# Altium schematic symbol library B-NT_CHIPS.SchLib: 157 symbols (part 3 of 4)
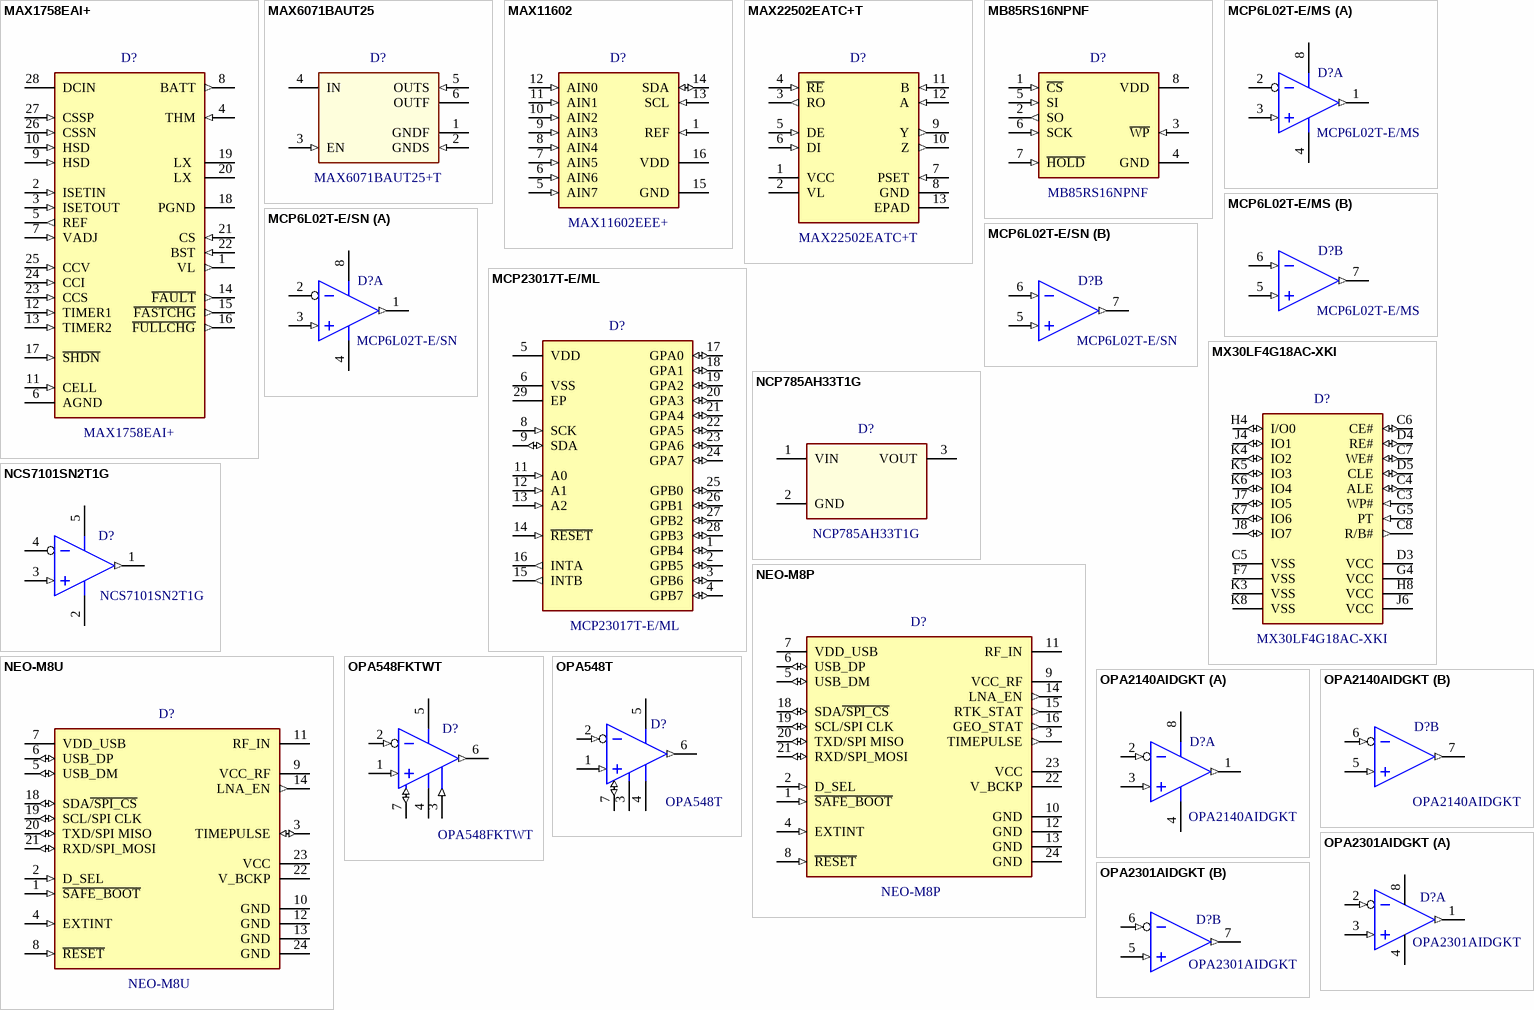
[diagram p11: symbols MAX1758EAI+ to OPA2301AIDGKT]

## NEO-M8U
designator D?  value NEO-M8U
RF Receiver BeiDou, Galileo, GLONASS, GNSS, GPS 1.575GHz -160dBm; ValueManufacturer: U-Blox America Inc.; PowerVoltage: 2.7V~3.6V; ValueDescription: NEO-M8U Приемник BeiDou, Galileo, GLONASS, GPS 2.7V~3.6V  24-SMD Module; Price: 43.0; ComponentLink1Description: U-Blox America Datasheet; ComponentLink1URL: https://www.u-blox.com/sites/default/files/NEO-M8U_DataSheet_%28UBX-15015679%29.pdf; Package: 24-SMD Module; ValueManufacturerPartNumber: NEO-M8U; ValueType: RF Receiver; Operating Temperature: -40°C~85°C; CheckDate: SC 21.10.17
footprint U-BLOX_NEO
pins: 1 ~{SAFE_BOOT} (in), 2 D_SEL (in), 3 TIMEPULSE (io), 4 EXTINT (in), 5 USB_DM (io), 6 USB_DP (io), 7 VDD_USB, 8 ~{RESET} (in), 9 VCC_RF, 10 GND, 11 RF_IN, 12 GND, 13 GND, 14 LNA_EN (out), 18 SDA~{/SPI_CS} (io), 19 SCL/SPI CLK (io), 20 TXD/SPI MISO (io), 21 RXD/SPI_MOSI (io), 22 V_BCKP, 23 VCC, 24 GND

## OPA548FKTWT
designator D?  value OPA548FKTWT
IC OPAMP POWER 1MHZ DDPAK; ValueManufacturer: Texas Instruments; PowerVoltage: 8 V ~ 60 V; ValueDescription: OPA548FKTWT Операционный усилитель 8 V ~ 60 V  TO-263-8, D²Pak (7 Leads + Tab), TO-263CA; ValueType: Operational amplifiers; Price: 17.09; ComponentLink1Description: Texas Instruments Datasheet; ComponentLink1URL: http://www.ti.com/lit/ds/symlink/opa548.pdf; Package: TO-263-8, D²Pak (7 Leads + Tab), TO-263CA; ValueManufacturerPartNumber: OPA548FKTWT; Operating Temperature: -40°C ~ 85°C; CheckDate: SC *
footprint TO-263-7 (DDPAK/TO-263-7)
pins: 1 VIN+ (in) "Noninverting input", 2 VIN- (in) "Inverting input", 3 ILIM (in) "Current limit set", 4 V- (power) "Negative power supply", 5 V+ (power) "Positive power supply", 6 VOUT (out) "Output", 7 E/S (io) "Enable/disable control input, thermal shutdown status output"

## OPA548T
designator D?  value OPA548T
IC OPAMP POWER 1MHZ TO220-7; ValueManufacturer: Texas Instruments; PowerVoltage: 8 V ~ 60 V; ValueDescription: OPA548T Операционный усилитель 8 V ~ 60 V  TO220-7; ValueType: Operational amplifiers; Price: 14.67; ComponentLink1Description: Texas Instruments Datasheet; ComponentLink1URL: http://www.ti.com/lit/ds/symlink/opa548.pdf; Package: TO220-7; ValueManufacturerPartNumber: OPA548T; Operating Temperature: -40°C ~ 85°C; CheckDate: SC *
footprint TO-220-7 (Formed Leads) (TO-220-7)
footprint TO-220-7 (Formed Leads) +радиатор (TO-220-7+ радиатор)
pins: 1 VIN+ (in) "Noninverting input", 2 VIN- (in) "Inverting input", 3 ILIM "Current limit set", 4 V- (power) "Negative power supply", 5 V+ (power) "Positive power supply", 6 VOUT (out) "Output", 7 E/S (io) "Enable/disable control input, thermal shutdown status output"

## OPA2140AIDGKT
designator D?  value OPA2140AIDGKT
J-FET Amplifier 2 Circuit Rail-to-Rail 11MHZ 8-VSSOP; ValueManufacturer: Texas Instruments; PowerVoltage: ±2.25 V ~ 18 V; ValueDescription: OPA2140AIDGKT Операционный усилитель ±2.25 V ~ 18 V  8-TSSOP, 8-MSOP; ValueType: Operational amplifiers; Price: 6.49; ComponentLink1Description: Texas Instruments Datasheet; ComponentLink1URL: http://www.ti.com/lit/ds/symlink/opa2140.pdf; Package: 8-TSSOP, 8-MSOP; ValueManufacturerPartNumber: OPA2140AIDGKT; Operating Temperature: -40°C ~ 125°C; CheckDate: SC *
footprint SSOP-8-3X3-0.65 (MSOP, 8-Leads, Body 3,00x3,00mm, Pitch 0,65mm, IPC Medium Density)
part A pins: 1 OUTA (out) "Output", 2 INA- (in) "Inverting input", 3 INA+ (in) "Noninverting input", 4 V- (power) "Negative power supply", 8 V+ (power) "Positive power supply"
part B pins: 5 INB+ (in) "Noninverting input", 6 INB- (in) "Inverting input", 7 OUTB (out) "Output"

## OPA2301AIDGKT
designator D?  value OPA2301AIDGKT
OP 2 Circuit 150MHZ Rail-to-Rail 8-VSSOP; ValueManufacturer: Texas Instruments; PowerVoltage: 5.5V; ValueDescription: OPA2301AIDGKT Операционный усилитель 5.5V  8-TSSOP, 8-MSOP  150MHz; ValueType: Operational amplifiers; Price: 2.73; ComponentLink1Description: Texas Instruments Datasheet; ComponentLink1URL: http://www.ti.com/lit/ds/symlink/opa300.pdf; Package: 8-TSSOP, 8-MSOP; TechSpec: 150MHz; ValueManufacturerPartNumber: OPA2301AIDGKT; Operating Temperature: -40°C~125°C; CheckDate: *
footprint SSOP-8-3X3-0.65 (MSOP, 8-Leads, Body 3,00x3,00mm, Pitch 0,65mm, IPC Medium Density)
part A pins: 1 OUTA (out) "Output", 2 INA- (in) "Inverting input", 3 INA+ (in) "Noninverting input", 4 V- (power) "Negative power supply", 8 V+ (power) "Positive power supply"
part B pins: 5 INB+ (in) "Noninverting input", 6 INB- (in) "Inverting input", 7 OUTB (out) "Output"

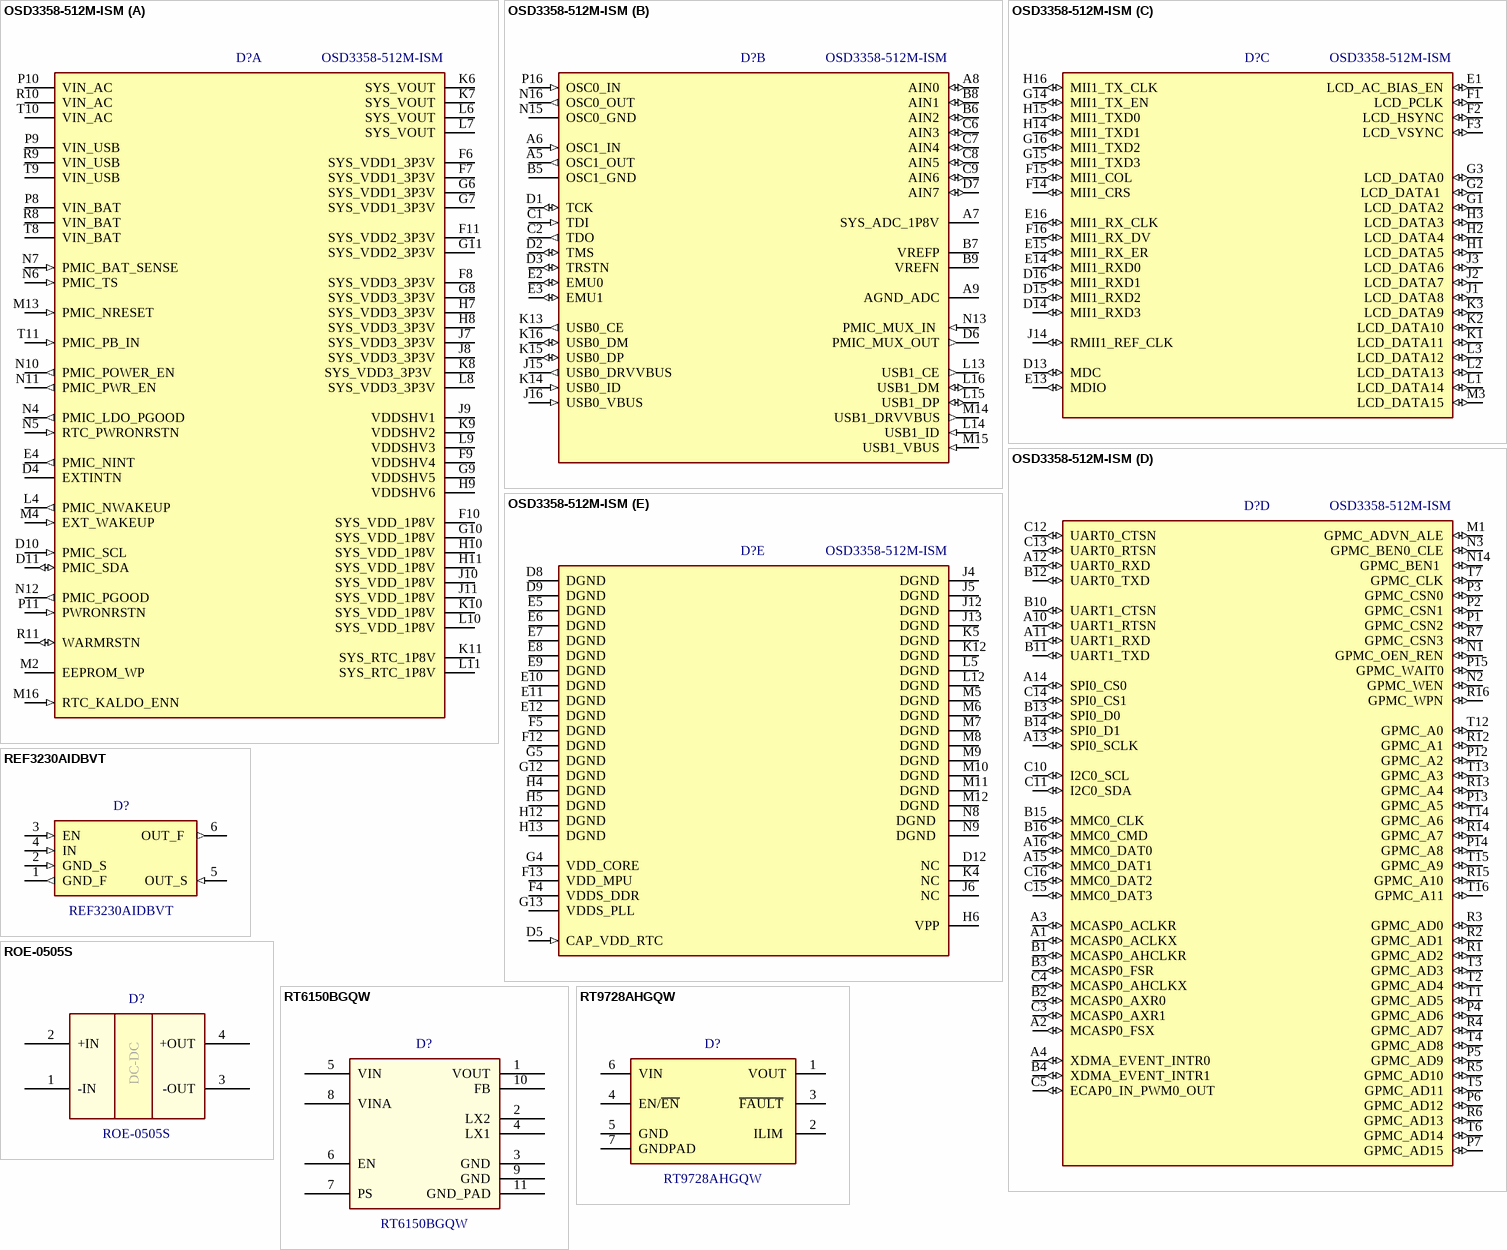
[diagram p5: symbols OSD3358-512M-ISM to RT9728AHGQW]

## OSD3358-512M-ISM
designator D?  value OSD3358-512M-ISM
SIP BUILDING BLOCKS EMBEDDED MODULE; ValueManufacturer: Octavo Systems LLC; PowerVoltage: 5V; ValueDescription: OSD3358-512M-ISM Микросборка 5V  256-BGA (16x16); ValueType: Microcontroller; Price: 52.8; ComponentLink1Description: Octavo Systems Datasheet; ComponentLink1URL: https://octavosystems.com/docs/osd335x-sm-datasheet/; Package: 256-BGA (16x16); ValueManufacturerPartNumber: OSD3358-512M-ISM; Operating Temperature: -40°C ~ 85°C (TA); CheckDate: SC *
footprint BGA256_16X16 (BGA, 256-Leads, Body 21,00x21,00mmx3,08mm, Pitch 1,27mm)
part A pins: D4 EXTINTN, D10 PMIC_SCL (in), D11 PMIC_SDA (io), E4 PMIC_NINT (out), F6 SYS_VDD1_3P3V, F7 SYS_VDD1_3P3V, F8 SYS_VDD3_3P3V, F9 VDDSHV4, F10 SYS_VDD_1P8V, F11 SYS_VDD2_3P3V, G6 SYS_VDD1_3P3V, G7 SYS_VDD1_3P3V, G8 SYS_VDD3_3P3V, G9 VDDSHV5, G10 SYS_VDD_1P8V, G11 SYS_VDD2_3P3V, H7 SYS_VDD3_3P3V, H8 SYS_VDD3_3P3V, H9 VDDSHV6, H10 SYS_VDD_1P8V, H11 SYS_VDD_1P8V, J7 SYS_VDD3_3P3V, J8 SYS_VDD3_3P3V, J9 VDDSHV1, J10 SYS_VDD_1P8V, J11 SYS_VDD_1P8V, K6 SYS_VOUT, K7 SYS_VOUT, K8 SYS_VDD3_3P3V , K9 VDDSHV2, K10 SYS_VDD_1P8V, K11 SYS_RTC_1P8V, L4 PMIC_NWAKEUP (out), L6 SYS_VOUT, L7 SYS_VOUT, L8 SYS_VDD3_3P3V, L9 VDDSHV3, L10 SYS_VDD_1P8V, L11 SYS_RTC_1P8V, M2 EEPROM_WP, M4 EXT_WAKEUP (in), M13 PMIC_NRESET (in), M16 RTC_KALDO_ENN (in), N4 PMIC_LDO_PGOOD (out), N5 RTC_PWRONRSTN  (in), N6 PMIC_TS  (in), N7 PMIC_BAT_SENSE  (in), N10 PMIC_POWER_EN  (out), N11 PMIC_PWR_EN  (out), N12 PMIC_PGOOD  (out), P8 VIN_BAT, P9 VIN_USB, P10 VIN_AC , P11 PWRONRSTN (in), R8 VIN_BAT, R9 VIN_USB, R10 VIN_AC, R11 WARMRSTN (io), T8 VIN_BAT, T9 VIN_USB, T10 VIN_AC, T11 PMIC_PB_IN (in)
part B pins: A5 OSC1_OUT (out), A6 OSC1_IN (in), A7 SYS_ADC_1P8V, A8 AIN0 (io), A9 AGND_ADC, B5 OSC1_GND, B6 AIN2 (io), B7 VREFP, B8 AIN1 (io), B9 VREFN, C1 TDI (in), C2 TDO  (out), C6 AIN3 (io), C7 AIN4 (io), C8 AIN5 (io), C9 AIN6 (io), D1 TCK (io), D2 TMS (io), D3 TRSTN (io), D6 PMIC_MUX_OUT (out), D7 AIN7 (io), E2 EMU0 (io), E3 EMU1 (io), J15 USB0_DRVVBUS (out), J16 USB0_VBUS (in), K13 USB0_CE (out), K14 USB0_ID (in), K15 USB0_DP (io), K16 USB0_DM (io), L13 USB1_CE (out), L14 USB1_ID (in), L15 USB1_DP (io), L16 USB1_DM (io), M14 USB1_DRVVBUS (out), M15 USB1_VBUS (in), N13 PMIC_MUX_IN  (in), N15 OSC0_GND , N16 OSC0_OUT  (out), P16 OSC0_IN (in)
part C pins: D13 MDC (io), D14 MII1_RXD3 (io), D15 MII1_RXD2 (io), D16 MII1_RXD1 (io), E1 LCD_AC_BIAS_EN (io), E13 MDIO (io), E14 MII1_RXD0 (io), E15 MII1_RX_ER (io), E16 MII1_RX_CLK (io), F1 LCD_PCLK (io), F2 LCD_HSYNC (io), F3 LCD_VSYNC (io), F14 MII1_CRS (io), F15 MII1_COL   (io), F16 MII1_RX_DV (io), G1 LCD_DATA2 (io), G2 LCD_DATA1  (io), G3 LCD_DATA0 (io), G14 MII1_TX_EN (io), G15 MII1_TXD3 (io), G16 MII1_TXD2 (io), H1 LCD_DATA5 (io), H2 LCD_DATA4 (io), H3 LCD_DATA3 (io), H14 MII1_TXD1 (io), H15 MII1_TXD0 (io), H16 MII1_TX_CLK (io), J1 LCD_DATA8 (io), J2 LCD_DATA7 (io), J3 LCD_DATA6 (io), J14 RMII1_REF_CLK (io), K1 LCD_DATA11 (io), K2 LCD_DATA10 (io), K3 LCD_DATA9 (io), L1 LCD_DATA14 (io), L2 LCD_DATA13 (io), L3 LCD_DATA12 (io), M3 LCD_DATA15 (io)
part D pins: A1 MCASP0_ACLKX (io), A2 MCASP0_FSX (io), A3 MCASP0_ACLKR (io), A4 XDMA_EVENT_INTR0 (io), A10 UART1_RTSN (io), A11 UART1_RXD (io), A12 UART0_RXD (io), A13 SPI0_SCLK (io), A14 SPI0_CS0 (io), A15 MMC0_DAT1 (io), A16 MMC0_DAT0 (io), B1 MCASP0_AHCLKR (io), B2 MCASP0_AXR0 (io), B3 MCASP0_FSR (io), B4 XDMA_EVENT_INTR1 (io), B10 UART1_CTSN (io), B11 UART1_TXD (io), B12 UART0_TXD (io), B13 SPI0_D0 (io), B14 SPI0_D1 (io), B15 MMC0_CLK (io), B16 MMC0_CMD (io), C3 MCASP0_AXR1 (io), C4 MCASP0_AHCLKX (io), C5 ECAP0_IN_PWM0_OUT (io), C10 I2C0_SCL (io), C11 I2C0_SDA (io), C12 UART0_CTSN (io), C13 UART0_RTSN (io), C14 SPI0_CS1 (io), C15 MMC0_DAT3 (io), C16 MMC0_DAT2 (io), M1 GPMC_ADVN_ALE (io), N1 GPMC_OEN_REN (io), N2 GPMC_WEN (io), N3 GPMC_BEN0_CLE (io), N14 GPMC_BEN1  (io), P1 GPMC_CSN2 (io), P2 GPMC_CSN1 (io), P3 GPMC_CSN0 (io), P4 GPMC_AD6 (io), P5 GPMC_AD9 (io), P6 GPMC_AD12 (io), P7 GPMC_AD15 (io), P12 GPMC_A2 (io), P13 GPMC_A5 (io), P14 GPMC_A8 (io), P15 GPMC_WAIT0 (io), R1 GPMC_AD2 (io), R2 GPMC_AD1 (io), R3 GPMC_AD0 (io), R4 GPMC_AD7 (io), R5 GPMC_AD10 (io), R6 GPMC_AD13 (io), R7 GPMC_CSN3 (io), R12 GPMC_A1 (io), R13 GPMC_A4 (io), R14 GPMC_A7 (io), R15 GPMC_A10 (io), R16 GPMC_WPN (io), T1 GPMC_AD5 (io), T2 GPMC_AD4 (io), T3 GPMC_AD3 (io), T4 GPMC_AD8 (io), T5 GPMC_AD11 (io), T6 GPMC_AD14 (io), T7 GPMC_CLK (io), T12 GPMC_A0 (io), T13 GPMC_A3 (io), T14 GPMC_A6 (io), T15 GPMC_A9 (io), T16 GPMC_A11 (io)
part E pins: D5 CAP_VDD_RTC (in), D8 DGND, D9 DGND, D12 NC, E5 DGND , E6 DGND, E7 DGND, E8 DGND, E9 DGND, E10 DGND, E11 DGND, E12 DGND, F4 VDDS_DDR, F5 DGND, F12 DGND, F13 VDD_MPU , G4 VDD_CORE, G5 DGND, G12 DGND, G13 VDDS_PLL, H4 DGND, H5 DGND, H6 VPP, H12 DGND, H13 DGND, J4 DGND, J5 DGND, J6 NC, J12 DGND, J13 DGND, K4 NC, K5 DGND, K12 DGND, L5 DGND, L12 DGND, M5 DGND, M6 DGND, M7 DGND, M8 DGND, M9 DGND, M10 DGND, M11 DGND, M12 DGND, N8 DGND , N9 DGND 

## REF3230AIDBVT
designator D?  value REF3230AIDBVT
IC VREF SERIES 3V SOT23-6; ValueManufacturer: Texas Instruments; PowerVoltage: 3.05 V ~ 5.5 V; ValueType: Voltage Reference; ValueDescription: REF3230AIDBVT Источник опорного напряжения 3.05 V ~ 5.5 V  SOT-23-6; Price: 4.69; Package: SOT-23-6; ValueManufacturerPartNumber: REF3230AIDBVT; Operating Temperature: -40°C ~ 125°C (TA); CheckDate: SC *; ComponentLink2Description: Texas Instruments Datasheet; ComponentLink2URL: http://www.ti.com/lit/ds/symlink/ref3212.pdf
footprint SOT23-6-1.6X2.9-0.95 (SOT, 6-Leads, Body 2,9x1,6mm, Pitch 0,95mm)
pins: 1 GND_F (out) "Ground connection of the device", 2 GND_S (in) "Ground sense at the load", 3 EN (in) "This pin enables and disables the device", 4 IN (in) "Positive supply voltage", 5 OUT_S (in) "Sense connection at the load", 6 OUT_F  (out) "Output of Reference Voltage"

## ROE-0505S
designator D?  value ROE-0505S
DC-DC Isolated 5V 200mA 4-SIP; ValueManufacturer: Recom Power; PowerVoltage: 4.5V~5.5V 1W; Tolerance: 79%; ValueDescription: ROE-0505S DC-DC изолир. преобразователь 4.5V~5.5V 1W  4-SIP; ValueType: Power Management; Price: 2.8; ComponentLink1Description: Recom Power Datasheet; ComponentLink1URL: http://www.recom-power.com/pdf/Econoline/ROE.pdf; Package: 4-SIP; ValueManufacturerPartNumber: ROE-0505S; Operating Temperature: -40°C~85°C; CheckDate: SC 20.12.16
footprint SIP-4
pins: 1 -IN, 2 +IN, 3 -OUT, 4 +OUT
text: DC-DC

## RT6150BGQW
designator D?  value RT6150BGQW
REG BUCK BST ADJ 0.8A 10WDFN; ValueManufacturer: Richtek USA Inc.; PowerVoltage: 1.8V~5.5V 800mA; ValueDescription: RT6150BGQW понижающе-повышающий DC-DC преобразователь 1.8V~5.5V 800mA  10-WFDFN (SON 2.5X2.5); ValueType: Power Management; Price: 1.23; ComponentLink1Description: Richtek Datasheet; ComponentLink1URL: http://www.recom-power.com/pdf/Econoline/ROE.pdf; Package: 10-WFDFN (SON 2.5X2.5); ValueManufacturerPartNumber: RT6150BGQW; Operating Temperature: -40°C~85°C; CheckDate: SC *
footprint SON-10-3X3-0.5-T
pins: 1 VOUT, 2 LX2, 3 GND, 4 LX1, 5 VIN, 6 EN, 7 PS, 8 VINA, 9 GND, 10 FB, 11 GND_PAD

## RT9728AHGQW
designator D?  value RT9728AHGQW
IC PWR SW USB 1.3A 6WDFN; ValueManufacturer: Richtek USA Inc.; PowerVoltage: 2.5 V ~ 5.5 V; ValueType: Power Distribution Switches; ValueDescription: RT9728AHGQW Переключатель распределения питания 2.5 V ~ 5.5 V  6-WDFN (2x2); Price: 1.48; Package: 6-WDFN (2x2); ValueManufacturerPartNumber: RT9728AHGQW; Operating Temperature: -40°C ~ 85°C (TA); CheckDate: SC *; ComponentLink2Description: Richtek Inc. Datasheet; ComponentLink2URL: http://www.richtek.com/assets/product_file/RT9728A/DS9728A-06.pdf
footprint WDFN-6-2x2-0.65
pins: 1 VOUT, 2 ILIM , 3 ~{FAULT} , 4 EN/~{EN}, 5 GND, 6 VIN , 7 GNDPAD

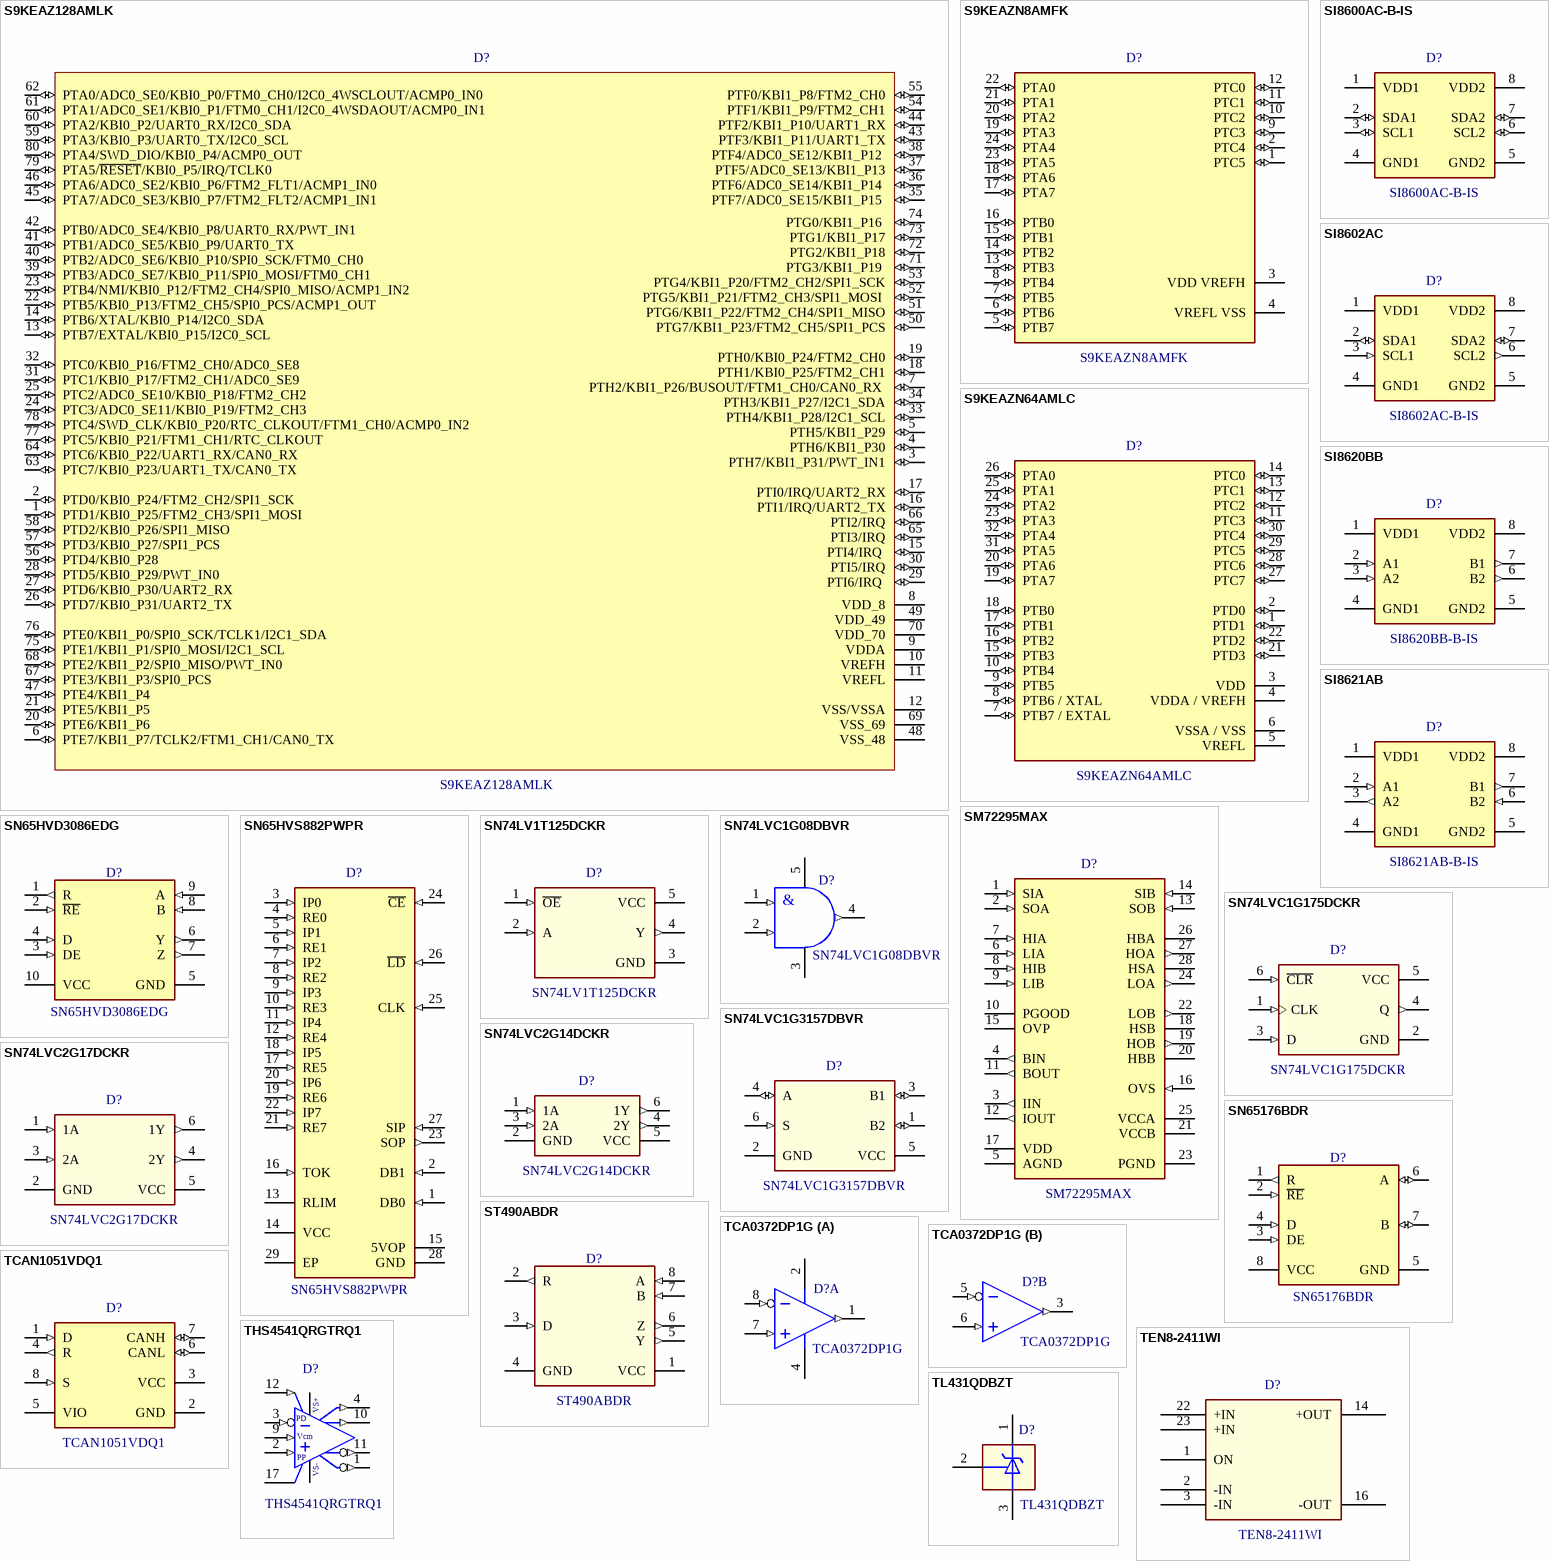
[diagram p6: symbols S9KEAZ128AMLK to TL431QDBZT]

## S9KEAZ128AMLK
designator D?  value S9KEAZ128AMLK
MCU 32BIT 128KB FLASH 80LQFP; ValueManufacturer: NXP; PowerVoltage: 2.7V~5.5V; ValueDescription: S9KEAZ128AMLK Микроконтроллер 2.7V~5.5V  80-LQFP (14x14); ValueType: Microcontroller; Price: 3.90; ComponentLink1Description: NXP Datasheet; ComponentLink1URL: http://cache.freescale.com/files/microcontrollers/doc/data_sheet/S9KEA128P80M48SF0.pdf; Package: 80-LQFP (14x14); ValueManufacturerPartNumber: S9KEAZ128AMLK; Operating Temperature: -40°C~125°C; CheckDate: SC 21.10.17
footprint QFP-80-14X14-0.5 (TQFN, 80-Leads, Body 14x14mm, Pitch 0.5mm)
pins: 1 PTD1/KBI0_P25/FTM2_CH3/SPI1_MOSI (io), 2 PTD0/KBI0_P24/FTM2_CH2/SPI1_SCK (io), 3 PTH7/KBI1_P31/PWT_IN1 (io), 4 PTH6/KBI1_P30 (io), 5 PTH5/KBI1_P29 (io), 6 PTE7/KBI1_P7/TCLK2/FTM1_CH1/CAN0_TX (io), 7 PTH2/KBI1_P26/BUSOUT/FTM1_CH0/CAN0_RX  (io), 8 VDD_8, 9 VDDA, 10 VREFH, 11 VREFL, 12 VSS/VSSA, 13 PTB7/EXTAL/KBI0_P15/I2C0_SCL (io), 14 PTB6/XTAL/KBI0_P14/I2C0_SDA (io), 15 PTI4/IRQ  (io), 16 PTI1/IRQ/UART2_TX (io), 17 PTI0/IRQ/UART2_RX (io), 18 PTH1/KBI0_P25/FTM2_CH1 (io), 19 PTH0/KBI0_P24/FTM2_CH0 (io), 20 PTE6/KBI1_P6 (io), 21 PTE5/KBI1_P5 (io), 22 PTB5/KBI0_P13/FTM2_CH5/SPI0_PCS/ACMP1_OUT (io), 23 PTB4/NMI/KBI0_P12/FTM2_CH4/SPI0_MISO/ACMP1_IN2 (io), 24 PTC3/ADC0_SE11/KBI0_P19/FTM2_CH3 (io), 25 PTC2/ADC0_SE10/KBI0_P18/FTM2_CH2 (io), 26 PTD7/KBI0_P31/UART2_TX (io), 27 PTD6/KBI0_P30/UART2_RX (io), 28 PTD5/KBI0_P29/PWT_IN0 (io), 29 PTI6/IRQ  (io), 30 PTI5/IRQ (io), 31 PTC1/KBI0_P17/FTM2_CH1/ADC0_SE9 (io), 32 PTC0/KBI0_P16/FTM2_CH0/ADC0_SE8 (io), 33 PTH4/KBI1_P28/I2C1_SCL (io), 34 PTH3/KBI1_P27/I2C1_SDA (io), 35 PTF7/ADC0_SE15/KBI1_P15  (io), 36  PTF6/ADC0_SE14/KBI1_P14  (io), 37  PTF5/ADC0_SE13/KBI1_P13 (io), 38 PTF4/ADC0_SE12/KBI1_P12  (io), 39 PTB3/ADC0_SE7/KBI0_P11/SPI0_MOSI/FTM0_CH1 (io), 40 PTB2/ADC0_SE6/KBI0_P10/SPI0_SCK/FTM0_CH0 (io), 41 PTB1/ADC0_SE5/KBI0_P9/UART0_TX (io), 42 PTB0/ADC0_SE4/KBI0_P8/UART0_RX/PWT_IN1 (io), 43 PTF3/KBI1_P11/UART1_TX (io), 44 PTF2/KBI1_P10/UART1_RX (io), 45 PTA7/ADC0_SE3/KBI0_P7/FTM2_FLT2/ACMP1_IN1 (io), 46 PTA6/ADC0_SE2/KBI0_P6/FTM2_FLT1/ACMP1_IN0 (io), 47 PTE4/KBI1_P4 (io), 48 VSS_48, 49 VDD_49, 50 PTG7/KBI1_P23/FTM2_CH5/SPI1_PCS (io), 51 PTG6/KBI1_P22/FTM2_CH4/SPI1_MISO (io), 52 PTG5/KBI1_P21/FTM2_CH3/SPI1_MOSI  (io), 53 PTG4/KBI1_P20/FTM2_CH2/SPI1_SCK (io), 54 PTF1/KBI1_P9/FTM2_CH1 (io), 55 PTF0/KBI1_P8/FTM2_CH0 (io), 56 PTD4/KBI0_P28 (io), 57 PTD3/KBI0_P27/SPI1_PCS (io), 58 PTD2/KBI0_P26/SPI1_MISO (io), 59 PTA3/KBI0_P3/UART0_TX/I2C0_SCL (io), 60 PTA2/KBI0_P2/UART0_RX/I2C0_SDA (io), 61 PTA1/ADC0_SE1/KBI0_P1/FTM0_CH1/I2C0_4WSDAOUT/ACMP0_IN1 (io), 62 PTA0/ADC0_SE0/KBI0_P0/FTM0_CH0/I2C0_4WSCLOUT/ACMP0_IN0 (io), 63 PTC7/KBI0_P23/UART1_TX/CAN0_TX (io), 64 PTC6/KBI0_P22/UART1_RX/CAN0_RX (io), 65 PTI3/IRQ (io), 66 PTI2/IRQ (io), 67 PTE3/KBI1_P3/SPI0_PCS (io), 68 PTE2/KBI1_P2/SPI0_MISO/PWT_IN0 (io), 69 VSS_69, 70 VDD_70, 71 PTG3/KBI1_P19  (io), 72 PTG2/KBI1_P18 (io), 73 PTG1/KBI1_P17 (io), 74 PTG0/KBI1_P16  (io), 75 PTE1/KBI1_P1/SPI0_MOSI/I2C1_SCL (io), 76 PTE0/KBI1_P0/SPI0_SCK/TCLK1/I2C1_SDA (io), 77 PTC5/KBI0_P21/FTM1_CH1/RTC_CLKOUT (io), 78 PTC4/SWD_CLK/KBI0_P20/RTC_CLKOUT/FTM1_CH0/ACMP0_IN2 (io), 79 PTA5/~{RESET}/KBI0_P5/IRQ/TCLK0 (io), 80 PTA4/SWD_DIO/KBI0_P4/ACMP0_OUT (io)

## S9KEAZN8AMFK
designator D?  value S9KEAZN8AMFK
MCU 32BIT 8KB FLASH 24QFN; ValueManufacturer: NXP; PowerVoltage: 2.7V~5.5V; ValueDescription: S9KEAZN8AMFK Микроконтроллер 2.7V~5.5V  24-VQFN Exposed Pad (4x4); ValueType: Microcontroller; Price: 2.89; Package: 24-VQFN Exposed Pad (4x4); ValueManufacturerPartNumber: S9KEAZN8AMFK; Operating Temperature: -40°C~125°C; CheckDate: SC *; ComponentLink1Description: NXP Datasheet; ComponentLink1URL: http://cache.freescale.com/files/microcontrollers/doc/data_sheet/S9KEA8P44M48SF0.pdf
footprint VQFN-24-4X4-0.5-T (QFN, 24-Leads with exposed die pad, Body 4.1x4.1mm (max), Pitch 0.50mm)
pins: 1 PTC5 (io), 2 PTC4 (io), 3 VDD VREFH, 4 VREFL VSS, 5 PTB7 (io), 6 PTB6  (io), 7 PTB5 (io), 8 PTB4 (io), 9 PTC3 (io), 10 PTC2 (io), 11 PTC1 (io), 12 PTC0 (io), 13 PTB3 (io), 14 PTB2 (io), 15 PTB1 (io), 16 PTB0 (io), 17 PTA7 (io), 18 PTA6 (io), 19 PTA3 (io), 20 PTA2 (io), 21 PTA1 (io), 22 PTA0 (io), 23 PTA5 (io), 24 PTA4 (io)

## S9KEAZN64AMLC
designator D?  value S9KEAZN64AMLC
MCU 32BIT 64KB FLASH 32LQFP; ValueManufacturer: NXP; PowerVoltage: 2.7V~5.5V; ValueDescription: S9KEAZN64AMLC Микроконтроллер 2.7V~5.5V  32-LQFP (7x7); ValueType: Microcontroller; Price: 2.89; ComponentLink1Description: NXP Datasheet; ComponentLink1URL: http://cache.freescale.com/files/microcontrollers/doc/data_sheet/S9KEA64P64M20SF0.pdf; Package: 32-LQFP (7x7); ValueManufacturerPartNumber: S9KEAZN64AMLC; Operating Temperature: -40°C~125°C; CheckDate: SC *
footprint QFP-32-7x7-0.8 (TQFP, 32-Leads, Body 7,00x7,00mm, Pitch 0,80mm, IPC Medium Density)
pins: 1 PTD1 (io), 2 PTD0 (io), 3 VDD, 4 VDDA / VREFH, 5 VREFL, 6 VSSA / VSS, 7 PTB7 / EXTAL (io), 8 PTB6 / XTAL (io), 9 PTB5 (io), 10 PTB4 (io), 11 PTC3 (io), 12 PTC2 (io), 13 PTC1 (io), 14 PTC0 (io), 15 PTB3 (io), 16 PTB2 (io), 17 PTB1 (io), 18 PTB0 (io), 19 PTA7 (io), 20 PTA6 (io), 21 PTD3 (io), 22 PTD2 (io), 23 PTA3 (io), 24 PTA2 (io), 25 PTA1 (io), 26 PTA0 (io), 27 PTC7 (io), 28 PTC6 (io), 29 PTC5 (io), 30 PTC4 (io), 31 PTA5 (io), 32 PTA4 (io)

## SI8600AC-B-IS
designator D?  value SI8600AC-B-IS
DGTL ISO 3.75KV 2CH I2C 8SOIC; ValueManufacturer: Silicon Labs; PowerVoltage: 3 V ~ 5.5 V; Tolerance: 3750Vrms; ValueDescription: SI8600AC-B-IS Цифровой изолятор I2C 3 V ~ 5.5 V  8-SOIC (3.90mm); ValueType: Digital Isolators; Price: 3.36; ComponentLink1Description: Silicon Labs Datasheet; ComponentLink1URL: http://www.silabs.com/documents/public/data-sheets/Si860x.pdf; Package: 8-SOIC (3.90mm); ValueManufacturerPartNumber: SI8600AC-B-IS; Operating Temperature: -40°C~125°C; CheckDate: SC *
footprint SOP-8-3.9X5-1.27 (SOIC, 8-Leads, Body 5x4mm, Pitch 1.27mm, IPC Medium Density)
pins: 1 VDD1 "Power1", 2 SDA1 (io) "SDA i/o", 3 SCL1 (io) "SCL i/o", 4 GND1 "Ground1", 5 GND2 "Ground2", 6 SCL2 (io) "SCL i/o", 7 SDA2 (io) "SDA i/o", 8 VDD2 "Power2"

## SI8602AC
designator D?  value SI8602AC-B-IS
DGTL ISO 3.75KV 2CH I2C 8SOIC; ValueManufacturer: Silicon Labs; PowerVoltage: 3 V ~ 5.5 V; Tolerance: 3750Vrms; ValueDescription: SI8602AC-B-IS Цифровой изолятор I2C 3 V ~ 5.5 V  8-SOIC (3.90mm); ValueType: Digital Isolators; Price: 3.02; ComponentLink1Description: Silicon Labs Datasheet; ComponentLink1URL: http://www.silabs.com/Support%20Documents/TechnicalDocs/Si860x.pdf; Package: 8-SOIC (3.90mm); ValueManufacturerPartNumber: SI8602AC-B-IS; Operating Temperature: -40°C~125°C; CheckDate: SC *
footprint SOP-8-3.9X5-1.27 (SOIC, 8-Leads, Body 5x4mm, Pitch 1.27mm, IPC Medium Density)
pins: 1 VDD1 "Power1", 2 SDA1 (io) "SDA i/o", 3 SCL1 (in) "SCL in", 4 GND1 "Ground1", 5 GND2 "Ground2", 6 SCL2 (out) "SCL out", 7 SDA2 (io) "SDA i/o", 8 VDD2 "Power2"

## SI8620BB
designator D?  value SI8620BB-B-IS
DGTL ISO 2.5KV 150Mbps GEN PURP 8SOIC; ValueManufacturer: Silicon Labs; PowerVoltage: 2.5V~5.5V; Tolerance: 2500Vrms; ValueDescription: SI8620BB-B-IS Цифровой изолятор 2.5V~5.5V  8-SOIC (3.90mm); ValueType: Digital Isolators; Price: 0.92; ComponentLink1Description: Silicon Labs Datasheet; ComponentLink1URL: http://www.silabs.com/Support%20Documents/TechnicalDocs/si861x-2x-datasheet.pdf; Package: 8-SOIC (3.90mm); ValueManufacturerPartNumber: SI8620BB-B-IS; Operating Temperature: -40°C~125°C; CheckDate: SC 05.01.17
footprint SOP-8-3.9X5-1.27 (SOIC, 8-Leads, Body 5x4mm, Pitch 1.27mm, IPC Medium Density)
pins: 1 VDD1 "Power1", 2 A1 (in) "Input 1", 3 A2 (in) "Input 2", 4 GND1 "Ground1", 5 GND2 "Ground2", 6 B2 (out) "Output 2", 7 B1 (out) "Output 1", 8 VDD2 "Power2"

## SI8621AB
designator D?  value SI8621AB-B-IS
DGTL ISO 2.5KV 150Mbps GEN PURP 8SOIC; ValueManufacturer: Silicon Labs; PowerVoltage: 2.5V~5.5V; Tolerance: 2500Vrms; ValueDescription: SI8621AB-B-IS Цифровой изолятор 2.5V~5.5V  8-SOIC (3.90mm); ValueType: Digital Isolators; Price: 1.54; ComponentLink1Description: Silicon Labs Datasheet; ComponentLink1URL: http://www.silabs.com/Support%20Documents/TechnicalDocs/si861x-2x-datasheet.pdf; Package: 8-SOIC (3.90mm); ValueManufacturerPartNumber: SI8621AB-B-IS; Operating Temperature: -40°C~125°C; CheckDate: SC 05.01.17
footprint SOP-8-3.9X5-1.27 (SOIC, 8-Leads, Body 5x4mm, Pitch 1.27mm, IPC Medium Density)
pins: 1 VDD1 "Power1", 2 A1 (in) "Input 1", 3 A2 (out) "Output 1", 4 GND1 "Ground1", 5 GND2 "Ground2", 6 B2 (in) "Input 2", 7 B1 (out) "Output 2", 8 VDD2 "Power2"

## SM72295MAX
designator D?  value SM72295MAX
PHOTO FULL BRIDGE DR 28SOIC; ValueManufacturer: Texas Instruments; ValueManufacturerPartNumber: SM72295MA; PowerVoltage: 100V; ValueDescription: SM72295MAX Мостовой драйвер 100V  28-SOIC (7.50mm); ValueType: Full bridge driver; Price: 4.67; ComponentLink1Description: TI Datasheet; ComponentLink1URL: http://www.ti.com/lit/ds/symlink/sm72295.pdf; Package: 28-SOIC (7.50mm); Operating Temperature: -40°C~125°C; CheckDate: SC 22.03.17
footprint SOP-28-7.6X17.75-1.27
pins: 1 SIA (in) "Sense high input for input current sense transconductance amplifier", 2 SOA (in) "Sense high input for input current sense transconductance amplifier", 3 IIN (out) "Output for current sense transconductance amplifier", 4 BIN (out) "Buffered IIN", 5 AGND "Analog ground", 6 LIA (in) "Low side driver control input", 7 HIA (in) "High side driver control input", 8 HIB (in) "High side driver control input", 9 LIB (in) "Low side driver control input", 10 PGOOD "Power good indicator output", 11 BOUT (out) "Buffered IOUT", 12 IOUT (out) "Output for current sense comparator.", 13 SOB (in) "Sense low input for output current sense amplifier", 14 SIB (in) "Sense high input for output current sense amplifier", 15 OVP "Over voltage indicator output", 16 OVS (in) "Sense input for over voltage", 17 VDD (power) "3.3V or 5V regulator output", 18 HSB "High side MOSFET source connection", 19 HOB (out) "High side gate driver output", 20 HBB "High side gate driver bootstrap rail.", 21 VCCB (power) "Positive gate drive supply", 22 LOB (out) "Low side gate driver output", 23 PGND "Power ground return", 24 LOA (out) "Low side gate driver output", 25 VCCA (power) "Positive gate drive supply", 26 HBA "High side gate driver bootstrap rail.", 27 HOA (out) "High side gate driver output", 28 HSA "High side MOSFET source connection"

## SN65HVD3086EDG
designator D?  value SN65HVD3086EDG
RS422 RS485 FULL Transceiver 8-SOIC 5V; ValueManufacturer: Texas Instruments; PowerVoltage: 4.5V~5.5V; ValueDescription: SN65HVD3086EDG  FULL RS485/RS422 приемопередатчик 4.5V~5.5V  10-SOP (3.00mm); Price: 3.2; ComponentLink1Description: Texas Instruments Datasheet; ComponentLink1URL: http://www.ti.com/lit/ds/symlink/sn65hvd3080e.pdf; Package: 10-SOP (3.00mm); ValueManufacturerPartNumber: SN65HVD3086EDG; ValueType: Transceiver; Operating Temperature: -40°C~855°C; CheckDate: SC 07.11.17
footprint MSOP-10-3X3-0.5 (MSOP-10, Body 3x3mm)
pins: 1 R (out), 2 ~{RE} (in), 3 DE (in), 4 D (in), 5 GND, 6 Y (out), 7 Z (out), 8 B (in), 9 A (in), 10 VCC

## SN65HVS882PWPR
designator D?  value SN65HVS882PWPR
IC SERIALIZER 1MBPS 28HTSSOP; ValueManufacturer: Texas Instruments; PowerVoltage: 10V~34V; ValueDescription: SN65HVS882PWPR Сериализатор 10V~34V  28-TSSOP; Price: 4.80000; ComponentLink1Description: Texas Instruments Datasheet; ComponentLink1URL: http://www.ti.com/lit/ds/symlink/sn65hvs882.pdf; Package: 28-TSSOP; ValueManufacturerPartNumber: SN65HVS882PWPR; ValueType: Serializer; Operating Temperature: -40°C~+125°C; CheckDate: *
footprint TSSOP-28-6.17x2.40-0.65-T (TSOP, 28-Leads, Body 9,70x4,40mm, Pitch 0,65mm, Thermal Pad 6,17x2,40mm, IPC Medium Density)
pins: 1 DB0 (in), 2 DB1 (in), 3 IP0 (in), 4 RE0 (in), 5 IP1 (in), 6 RE1 (in), 7 IP2 (in), 8 RE2 (in), 9 IP3 (in), 10 RE3 (in), 11 IP4 (in), 12 RE4 (in), 13 RLIM (power), 14 VCC (power), 15 5VOP (power), 16 TOK (in), 17 RE5 (in), 18 IP5 (in), 19 RE6 (in), 20 IP6 (in), 21 RE7 (in), 22 IP7 (in), 23 SOP (out), 24 ~{CE} (in), 25 CLK (in), 26 ~{LD} (in), 27 SIP (in), 28 GND (power), 29 EP (power)

## SN74LV1T125DCKR
designator D?  value SN74LV1T125DCKR
BUFFER GATE SHIFT LEVEL CMOS SC70-5; ValueManufacturer: Texas Instruments; PowerVoltage: 1.6V~5.5V; TechSpec: 50MHz; ValueDescription: SN74LV1T125DCKR Преобраз. логич. уровня 1.6V~5.5V  SC-70-5  50MHz; Price: 0.45; ComponentLink1Description: TI Datasheet; ComponentLink1URL: http://www.ti.com/lit/ds/symlink/sn74lv1t125.pdf; Package: SC-70-5; ValueManufacturerPartNumber: SN74LV1T125DCKR; ValueType: Shift Level; Operating Temperature: -40°C~125°C; CheckDate: SC 07.11.17
footprint SOT353-5-1.25X2.1-0.65 (SC-70-5, 0.65 PITCH)
pins: 1 ~{OE} (in) "Clear Data Input", 2 A (in) "Clock Input", 3 GND "Ground", 4 Y (out) "Output", 5 VCC "Power"

## SN74LVC1G08DBVR
designator D?  value SN74LVC1G08DBVR
GATE AND 1CH 2-INP SOT23-5; ValueManufacturer: Texas Instruments; PowerVoltage: 1.65V~5.5V; ValueDescription: SN74LVC1G08DBVR  Логика 1х2И  1.65V~5.5V  SOT-23-5; ValueType: Logical AND; Price: 0.43; ComponentLink1Description: Texas Instruments Datasheet; ComponentLink1URL: http://www.ti.com/lit/ds/symlink/sn74lvc1g08.pdf; Package: SOT-23-5; ValueManufacturerPartNumber: SN74LVC1G08DBVR; Operating Temperature: -40°C~125°C; CheckDate: SC *
footprint SOT23-5-1.6X2.9-0.95 (SOT, 6-Leads, Body 2,9x1,6mm, Pitch 0,95mm)
pins: 1 INA (in), 2 INB (in), 3 VSS, 4 OUT (out), 5 VDD
text: &

## SN74LVC1G175DCKR
designator D?  value SN74LVC1G175DCKR
D-TYPE POS TRG SNGL SC70-6 175MHz; ValueManufacturer: Texas Instruments; PowerVoltage: 1.65V~5.5V; ValueDescription: SN74LVC1G175DCKR D-триггер 1.65V~5.5V  SC-70-6; ValueType: D-trigger; Price: 0.36; ComponentLink1Description: TI Datasheet; ComponentLink1URL: http://www.ti.com/lit/ds/symlink/sn74lvc1g175.pdf; Package: SC-70-6; ValueManufacturerPartNumber: SN74LVC1G175DCKR; Operating Temperature: -40°C~125°C; CheckDate: SC 26.03.17
footprint SOT363-6-1.25X2.1-0.65 (TSOP, 6-Leads, Body 2,00x1,25mm, Pitch 0,65mm, IPC Medium Density)
pins: 1 CLK (in) "Clock Input", 2 GND "Ground", 3 D (in) "Data Input", 4 Q (out) "Output", 5 VCC "Power", 6 ~{CLR} (in) "Clear Data Input"

## SN74LVC1G3157DBVR
designator D?  value SN74LVC1G3157DBVR
SWITCH 2:1 15 Ohm 340MHz SPDT SOT23-6; ValueManufacturer: Texas Instruments; PowerVoltage: 1.65V~5.5V; TechSpec: Io=100mA, 340MHz; ValueDescription: SN74LVC1G3157DBVR Переключатель сигналов 2 в 1 1.65V~5.5V  SOT-23-6  Io=100mA, 340MHz; ValueType: IC Switch 2:1; Price: 0.37; ComponentLink1Description: TI Datasheet; ComponentLink1URL: http://www.ti.com/lit/ds/symlink/sn74lvc1g3157.pdf; Package: SOT-23-6; ValueManufacturerPartNumber: SN74LVC1G3157DBVR; Operating Temperature: -40°C~125°C; CheckDate: SC *
footprint SOT363-6-1.25X2.1-0.65 (TSOP, 6-Leads, Body 2,00x1,25mm, Pitch 0,65mm, IPC Medium Density)
pins: 1 B2 (io) "Clear Data Input", 2 GND "Ground", 3 B1 (io) "Clock Input", 4 A (io) "Output", 5 VCC "Power", 6 S (in) "Output"

## SN74LVC2G14DCKR
designator D?  value SN74LVC2G14DCKR
IC INVERTER DUAL SHMT-T SC-70-6; ValueManufacturer: Texas Instruments; PowerVoltage: 1.65V~5.5V; ValueDescription: SN74LVC2G14DCKR 2-х канальный триггер Шмитта 1.65V~5.5V  SC-70-6 (6-TSSOP, SC-88, SOT-363); ValueType: Inverter IC 2 Channel Schmitt Trigger; Price: 0.54; ComponentLink1Description: TI Datasheet; ComponentLink1URL: http://www.ti.com/lit/ds/symlink/sn74lvc2g14.pdf; Package: SC-70-6 (6-TSSOP, SC-88, SOT-363); ValueManufacturerPartNumber: SN74LVC2G14DCKR; Operating Temperature: -40°C~125°C; CheckDate: SC *
footprint SOT363-6-1.25X2.1-0.65 (TSOP, 6-Leads, Body 2,00x1,25mm, Pitch 0,65mm, IPC Medium Density)
pins: 1 1A (in) "Gate 1 logic signal", 2 GND (power) "Ground", 3 2A (in) "Gate 2 logic signal", 4 2Y (out) "Gate 2 inverted signal", 5 VCC (power) "Power", 6 1Y (out) "Gate 1 inverted signal"

## SN74LVC2G17DCKR
designator D?  value SN74LVC2G17DCKR
BUFFER DUAL SCHMIT TRIG INP SC70-6; ValueManufacturer: Texas Instruments; PowerVoltage: 1.65V~5.5V; TechSpec: Io=32mA, 50MHz; ValueDescription: SN74LVC2G17DCKR 2-й буфер с тригерами Шмитта на входах 1.65V~5.5V  SC-70-6  Io=32mA, 50MHz; ValueType: Schmit triger inputs Buffer; Price: 0.45; ComponentLink1Description: TI Datasheet; ComponentLink1URL: http://www.ti.com/lit/ds/symlink/sn74lvc2g17.pdf; Package: SC-70-6; ValueManufacturerPartNumber: SN74LVC2G17DCKR; Operating Temperature: -40°C~125°C; CheckDate: SC 07.11.17
footprint SOT363-6-1.25X2.1-0.65 (TSOP, 6-Leads, Body 2,00x1,25mm, Pitch 0,65mm, IPC Medium Density)
pins: 1 1A (in) "Clear Data Input", 2 GND "Ground", 3 2A (in) "Clock Input", 4 2Y (out) "Output", 5 VCC "Power", 6 1Y (out) "Output"

## SN65176BDR
designator D?  value SN65176BDR
RS422 RS485 Half Transceiver 8-SOIC 5V; ValueManufacturer: Texas Instruments; PowerVoltage: 4.5V~5.5V; ValueDescription: SN65176BDR  Half RS485/RS422 приемопередатчик 4.5V~5.5V  8-SOIC (3.90mm); Price: 0.8; ComponentLink1Description: Texas Instruments Datasheet; ComponentLink1URL: http://www.ti.com/lit/ds/symlink/sn65176b.pdf; Package: 8-SOIC (3.90mm); ValueManufacturerPartNumber: SN65176BDR; ValueType: Transceiver; Operating Temperature: -40°C~105°C; CheckDate: SC 20.12.16
footprint SOP-8-3.9X5-1.27 (SOIC, 8-Leads, Body 5x4mm, Pitch 1.27mm, IPC Medium Density)
pins: 1 R (out), 2 ~{RE} (in), 3 DE (in), 4 D (in), 5 GND, 6 A (io), 7 B (io), 8 VCC

## ST490ABDR
designator D?  value ST490ABDR
Transceiver Full RS422, RS485 8-SO 25Mbps; ValueManufacturer: STMicroelectronics; PowerVoltage: 4.5~5.5V; ValueDescription: ST490ABDR  Full RS485/RS422 приемопередатчик 4.5~5.5V  8-SOIC (3.90mm); ValueType: Transceiver RS422/485; Price: 1.31; ComponentLink1Description: STM Datasheet; ComponentLink1URL: http://www.st.com/content/ccc/resource/technical/document/datasheet/45/b4/14/d4/eb/dc/4a/7e/CD00003152.pdf/files/CD00003152.pdf/jcr:content/translations/en.CD00003152.pdf; Package: 8-SOIC (3.90mm); ValueManufacturerPartNumber: ST490ABDR; Operating Temperature: -40°C~85°C; CheckDate: SC 26.03.17
footprint SOP-8-3.9X5-1.27 (SOIC, 8-Leads, Body 5x4mm, Pitch 1.27mm, IPC Medium Density)
pins: 1 VCC (power), 2 R (out), 3 D (in), 4 GND, 5 Y (out), 6 Z (out), 7 B (in), 8 A (in)

## TCA0372DP1G
designator D?  value TCA0372DP1G
IC OPAMP GP 1.4MHZ 8DIP; ValueManufacturer: ON Semiconductor; PowerVoltage: ±2.5 V ~ 20 V; ValueDescription: TCA0372DP1G Операционный усилитель ±2.5 V ~ 20 V  8-PDIP; ValueType: Operational amplifiers; Price: 0.99; ComponentLink1Description: ON Semiconductor Datasheet; ComponentLink1URL: http://www.onsemi.ru.com/PowerSolutions/document/TCA0372-D.PDF; Package: 8-PDIP; ValueManufacturerPartNumber: TCA0372DP1G; Operating Temperature: -40°C ~ 125°C; CheckDate: SC *
footprint DIP8 (8-DIP (0.300", 7.62mm))
part A pins: 1 VOUTA (out), 2 VCC (power), 4 VEE/GND (power), 7 VINA+ (in), 8 VINA- (in)
part B pins: 3 VOUTB (out), 5 VINB- (in), 6 VINB+ (in)

## TCAN1051VDQ1
designator D?  value TCAN1051VDQ1
CAN Transceiver 8-SOIC 5V; ValueManufacturer: Texas Instruments; PowerVoltage: 4.5V~5.5V; ValueDescription: TCAN1051VDQ1  CAN приемопередатчик 4.5V~5.5V  8-SOIC (3.90mm); Price: 1.5; ComponentLink1Description: Texas Instruments Datasheet; ComponentLink1URL: http://www.ti.com/lit/ds/symlink/tcan1051-q1.pdf; Package: 8-SOIC (3.90mm); ValueManufacturerPartNumber: TCAN1051VDQ1; ValueType: Transceiver; Operating Temperature: -55°C~125°C; CheckDate: SC 19.12.16
footprint SOP-8-3.9X5-1.27 (SOIC, 8-Leads, Body 5x4mm, Pitch 1.27mm, IPC Medium Density)
pins: 1 D (in) "Driver input", 2 GND "Ground", 3 VCC "Supply voltage", 4 R (out) "Receiver output", 5 VIO "No connection", 6 CANL (io) "Low bus output", 7 CANH (io) "High bus outpu", 8 S (in) "No connection"

## TEN8-2411WI
designator D?  value TEN8-2411WI
DC-DC Isolated 5V 200mA 4-SIP; ValueManufacturer: Traco Power; PowerVoltage: 8W 9~36V; Tolerance: 87%; ValueDescription: TEN8-2411WI DC-DC изолир. преобразователь 8W 9~36V  DIP-24; Price: 27.35; ComponentLink1Description: Traco Power Datasheet; ComponentLink1URL: http://www.tracopower.com/products/ten8wi.pdf; Package: DIP-24; ValueManufacturerPartNumber: TEN8-2411WI; ValueType: DC-DC; Operating Temperature: -40°C~85°C; CheckDate: SC 21.10.17
footprint TEN8-2411WI ((31.8mm x 20.3mm x 10.2mm))
pins: 1 ON, 2 -IN, 3 -IN, 14 +OUT, 16 -OUT, 22 +IN, 23 +IN

## THS4541QRGTRQ1
designator D?
IC OPAMP DIFF 850MHZ 16QFN; ValueManufacturer: Texas Instruments; PowerVoltage: 2.7 V ~ 5.4 V; ValueDescription: THS4541QRGTRQ1 Операционный усилитель 2.7 V ~ 5.4 V  16-QFN (3x3); ValueType: Operational amplifiers; ComponentLink1Description: Texas Instruments Datasheet; ComponentLink1URL: http://www.ti.com/lit/ds/symlink/ths4541-q1.pdf; CheckDate: SC *; Operating Temperature: -40°C ~ 125°C; Package: 16-QFN (3x3); Price: 6.75; ValueManufacturerPartNumber: THS4541QRGTRQ1; Value: THS4541QRGTRQ1
footprint VQFN-16 (3x3)-0.5-T_THS4541 (Body 3.1x3.1x1mm(max))
pins: 1 FB– (out) "Inverted (negative) output feedback", 2 IN+ (in) "Noninverting (positive) amplifier input", 3 IN- (in) "Inverting (negative) amplifier input", 4 FB+  (out) "Noninverted (positive) output feedback", 5 VS+ (power) "Positive power-supply input", 9 Vocm  (in) "Common-mode voltage input", 10 OUT+ (out) "Noninverted (positive) amplifier output", 11 OUT– (out) "Inverted (negative) amplifier output", 12 ~{PD}  (in) "Power down", 13 VS- (power) "Negative power-supply input", 17 PP  "Power down"
text: PD; Vcm

## TL431QDBZT
designator D?  value TL431QDBZT
Shunt Voltage Reference IC 36V ±2.2% 100mA SOT-23-3; ValueManufacturer: Diodes Incorporated; ValueDescription: TL431QDBZT Регулируемый стабилитрон 36V  SOT-23-3; ValueType: Adjustable zener Diodes; Price: 0.16; ComponentLink1Description: TI Datasheet; ComponentLink1URL: http://www.ti.com/lit/ds/symlink/tl431a.pdf; Package: SOT-23-3; PowerVoltage: 36V; Tolerance: ±2.2%; ValueManufacturerPartNumber: TL431QDBZT; Operating Temperature: -40°C~125°C; CheckDate: SC 22.03.17
footprint TSOT23-3-1.4X3-0.95 (SOT23, 3-Leads, Body 3x1.4 mm, Pitch 0.95mm,)
pins: 1, 2 REF, 3

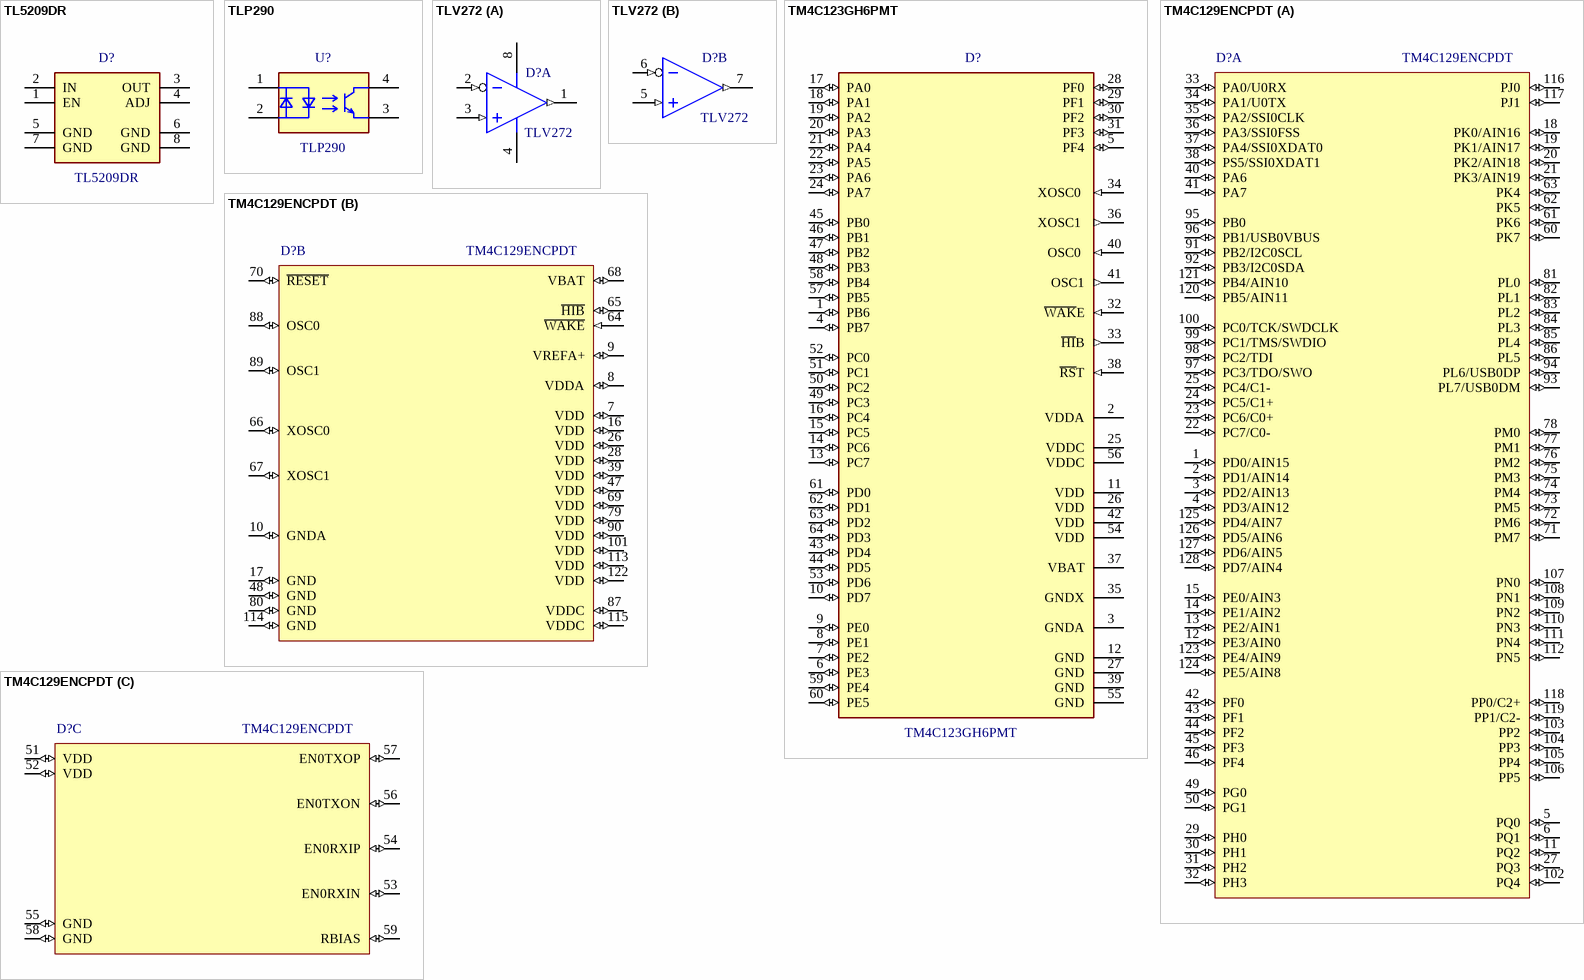
[diagram p7: symbols TL5209DR to TM4C129ENCPDT]

## TL5209DR
designator D?  value TL5209DR
REG LDO ADJ 0.5A 8SOIC; ValueManufacturer: Texas Instruments; ValueDescription: TL5209DR Регулятор напряжения   SOIC-8; ValueType: voltage regulator; Price: 1.17; ComponentLink1Description: Texas Instruments Datasheet; ComponentLink1URL: https://media.digikey.com/pdf/Data%20Sheets/Texas%20Instruments%20PDFs/TL5209.pdf; Package: SOIC-8; ValueManufacturerPartNumber: TL5209DR; Operating Temperature: -40°C~110°C; CheckDate: SC 21.10.17
footprint SOP-8-3.9X5-1.27 (SOIC, 8-Leads, Body 5x4mm, Pitch 1.27mm, IPC Medium Density)
pins: 1 EN, 2 IN, 3 OUT, 4 ADJ, 5 GND, 6 GND, 7 GND, 8 GND

## TLP290
designator U?  value TLP290
Optoisolator Darlington 300V. 150mA 4-SOP (2.54mm); ValueManufacturer: Toshiba Semiconductor and Storage; PowerVoltage: 80V 50mA; ValueDescription: TLP290  Оптопара 80V 50mA  4-SOIC (4.40mm); Price: 0.42; ComponentLink1Description: Toshiba Datasheet; ComponentLink1URL: https://www.google.by/url?sa=t&rct=j&q=&esrc=s&source=web&cd=1&cad=rja&uact=8&ved=0ahUKEwiwt7KpivLUAhVKDZoKHYxXDpIQFgglMAA&url=https%3A%2F%2Ftoshiba.semicon-storage.com%2Finfo%2Fdocget.jsp%3Fdid%3D12882%26prodName%3DTLP290&usg=AFQjCNHs5Nlos0birVGJvr9LBP-rYuI6ZA; Package: 4-SOIC (4.40mm); ValueManufacturerPartNumber: TLP290; ValueType: Optoisolator; Operating Temperature: -55°C~110°C; CheckDate: SC 21.10.17
footprint SOP-4-2.65X4.6-1.27 (SOIC, 4-Leads, Body 2,65x4,60mm, Pitch 1,27mm, IPC Medium Density)
pins: 1 An "Current input", 2 Ct "Current output", 3 Em (oe) "Current output", 4 Cl (oc) "Current input"

## TLV272
designator D?  value TLV272
OP Amplifier GP Rail-to-Rail 3MHZ RRO 8SOIC 2.7V~16V; ValueManufacturer: Texas Instruments; ValueManufacturerPartNumber: TLV272IDR; ValueDescription: TLV272  Операционный усилитель 2.7V~16V  8-SOIC (3.90mm); ValueType: Operational amplifiers; Price: 0.90; ComponentLink1Description: Texas Instruments Datasheet; ComponentLink1URL: http://www.ti.com/lit/ds/symlink/tlv272.pdf; Package: 8-SOIC (3.90mm); PowerVoltage: 2.7V~16V; Operating Temperature: -40°C~125°C; CheckDate: SC 14.01.17
footprint SOP-8-3.9X5-1.27 (SOIC, 8-Leads, Body 5x4mm, Pitch 1.27mm, IPC Medium Density)
part A pins: 1 VOUTA (out), 2 VINA- (in), 3 VINA+ (in), 4 VSS, 8 VDD
part B pins: 5 VINB+ (in), 6 VINB- (in), 7 VOUTB (out)

## TM4C123GH6PMT
designator D?  value TM4C123GH6PMT
IC MCU 32BIT 256KB FLASH 64LQFP; ValueManufacturer: Texas Instrument; PowerVoltage: 1.08 V ~ 3.63 V; ValueDescription: TM4C123GH6PMT Микроконтроллер 1.08 V ~ 3.63 V  64-LQFP (10x10); ValueType: Microcontroller; Price: 11.27; ComponentLink1Description: TI Datasheet; ComponentLink1URL: http://www.ti.com/lit/ds/symlink/tm4c123gh6pm.pdf; Package: 64-LQFP (10x10); ValueManufacturerPartNumber: TM4C123GH6PMT; Operating Temperature: -40°C ~ 105°C (TA); CheckDate: SC *
footprint QFP-64-10x10-0.5 (LQFP, 64-Leads, Body 10x10mm, Pitch 0.5mm)
pins: 1 PB6  (io) "GPIO port B bit 6", 2 VDDA (power) "The positive supply for the analog circuits", 3 GNDA (power) "The ground reference for the analog circuits", 4 PB7  (io) "GPIO port B bit 7", 5 PF4 (io) "GPIO port F bit 4", 6 PE3 (io) "GPIO port E bit 3", 7 PE2 (io) "GPIO port E bit 2", 8 PE1 (io) "GPIO port E bit 1", 9 PE0 (io) "GPIO port E bit 0", 10 PD7 (io) "GPIO port D bit 7", 11 VDD (power) "Positive supply for I/O and some logic", 12 GND (power) "Ground reference for logic and I/O pins", 13 PC7 (io) "GPIO port C bit 7", 14 PC6 (io) "GPIO port C bit 6", 15 PC5 (io) "GPIO port C bit 5", 16 PC4 (io) "GPIO port C bit 4", 17 PA0 (io) "GPIO port A bit 0", 18 PA1 (io) "GPIO port A bit 1", 19 PA2 (io) "GPIO port A bit 2", 20 PA3 (io) "GPIO port A bit 3", 21 PA4 (io) "GPIO port A bit 4", 22 PA5 (io) "GPIO port A bit 5", 23 PA6 (io) "GPIO port A bit 6", 24 PA7 (io) "GPIO port A bit 7", 25 VDDC (power) "Positive supply for most of the logic function", 26 VDD (power) "Positive supply for I/O and some logic", 27 GND (power) "Ground reference for logic and I/O pins", 28 PF0 (io) "GPIO port F bit 0", 29 PF1 (io) "GPIO port F bit 1", 30 PF2 (io) "GPIO port F bit 2", 31 PF3 (io) "GPIO port F bit 3", 32 ~{WAK}E (in) "An external input that brings the processor out of Hibernate mode", 33 ~{HI}B (out) "An output that indicates the processor is in Hibernate mode", 34 XOSC0  (in) "Hibernation module oscillator crystal input", 35 GNDX (power) "GND for the Hibernation oscillator", 36 XOSC1  (out) "Hibernation module oscillator crystal output", 37 VBAT (power) "Power source for the Hibernation module", 38 ~{RS}T (in) "System reset input", 39 GND (power) "Ground reference for logic and I/O pins", 40 OSC0  (in) "Main oscillator crystal input", 41 OSC1 (out) "Main oscillator crystal output", 42 VDD (power) "Positive supply for I/O and some logic", 43 PD4 (io) "GPIO port D bit 4", 44 PD5 (io) "GPIO port D bit 5", 45 PB0  (io) "GPIO port B bit 0", 46 PB1  (io) "GPIO port B bit 1", 47 PB2 (io) "GPIO port B bit 2", 48 PB3 (io) "GPIO port B bit 3", 49 PC3 (io) "GPIO port C bit 3", 50 PC2 (io) "GPIO port C bit 2", 51 PC1 (io) "GPIO port C bit 1", 52 PC0 (io) "GPIO port C bit 0", 53 PD6 (io) "GPIO port D bit 6", 54 VDD (power) "Positive supply for I/O and some logic", 55 GND (power) "Ground reference for logic and I/O pins", 56 VDDC (power) "Positive supply for most of the logic function", 57 PB5 (io) "GPIO port B bit 5", 58 PB4 (io) "GPIO port B bit 4", 59 PE4 (io) "GPIO port E bit 4", 60 PE5 (io) "GPIO port E bit 5", 61 PD0 (io) "GPIO port D bit 0", 62 PD1 (io) "GPIO port D bit 1", 63 PD2 (io) "GPIO port D bit 2", 64 PD3 (io) "GPIO port D bit 3"

## TM4C129ENCPDT
designator D?  value TM4C129ENCPDT
MCU 32BIT 1MB FLASH 128TQFP; ValueManufacturer: Texas Instrument; PowerVoltage: 2.97 V ~ 3.63 V; ValueDescription: TM4C129ENCPDT Микроконтроллер 2.97 V ~ 3.63 V  128-TQFP (14x14); ValueType: Microcontroller; Price: 19.0; ComponentLink1Description: TI Datasheet; ComponentLink1URL: http://www.ti.com/lit/ds/symlink/tm4c129encpdt.pdf; Package: 128-TQFP (14x14); ValueManufacturerPartNumber: TM4C129ENCPDT; Operating Temperature: -40°C~125°C; CheckDate: SC 21.10.17
footprint QFP-128-14X14-0.5 (TQFP, 128-Leads, Body 14x14mm, Pitch 0.5mm)
part A pins: 1 PD0/AIN15 (io), 2 PD1/AIN14 (io), 3 PD2/AIN13 (io), 4 PD3/AIN12 (io), 5 PQ0 (io), 6 PQ1 (io), 11 PQ2 (io), 12 PE3/AIN0 (io), 13 PE2/AIN1 (io), 14 PE1/AIN2 (io), 15 PE0/AIN3 (io), 18 PK0/AIN16 (io), 19 PK1/AIN17 (io), 20 PK2/AIN18 (io), 21 PK3/AIN19 (io), 22 PC7/C0- (io), 23 PC6/C0+ (io), 24 PC5/C1+ (io), 25 PC4/C1- (io), 27 PQ3 (io), 29 PH0 (io), 30 PH1 (io), 31 PH2 (io), 32 PH3 (io), 33 PA0/U0RX (io), 34 PA1/U0TX (io), 35 PA2/SSI0CLK (io), 36 PA3/SSI0FSS (io), 37 PA4/SSI0XDAT0 (io), 38 PS5/SSI0XDAT1 (io), 40 PA6 (io), 41 PA7 (io), 42 PF0 (io), 43 PF1 (io), 44 PF2 (io), 45 PF3 (io), 46 PF4 (io), 49 PG0 (io), 50 PG1 (io), 60 PK7 (io), 61 PK6 (io), 62 PK5 (io), 63 PK4 (io), 71 PM7 (io), 72 PM6 (io), 73 PM5 (io), 74 PM4 (io), 75 PM3 (io), 76 PM2 (io), 77 PM1 (io), 78 PM0 (io), 81 PL0 (io), 82 PL1 (io), 83 PL2 (io), 84 PL3 (io), 85 PL4 (io), 86 PL5 (io), 91 PB2/I2C0SCL (io), 92 PB3/I2C0SDA (io), 93 PL7/USB0DM (io), 94 PL6/USB0DP (io), 95 PB0 (io), 96 PB1/USB0VBUS (io), 97 PC3/TDO/SWO (io), 98 PC2/TDI (io), 99 PC1/TMS/SWDIO (io), 100 PC0/TCK/SWDCLK (io), 102 PQ4 (io), 103 PP2 (io), 104 PP3 (io), 105 PP4 (io), 106 PP5 (io), 107 PN0 (io), 108 PN1 (io), 109 PN2 (io), 110 PN3 (io), 111 PN4 (io), 112 PN5 (io), 116 PJ0 (io), 117 PJ1 (io), 118 PP0/C2+ (io), 119 PP1/C2- (io), 120 PB5/AIN11 (io), 121 PB4/AIN10 (io), 123 PE4/AIN9 (io), 124 PE5/AIN8 (io), 125 PD4/AIN7 (io), 126 PD5/AIN6 (io), 127 PD6/AIN5 (io), 128 PD7/AIN4 (io)
part B pins: 7 VDD (io), 8 VDDA (io), 9 VREFA+ (io), 10 GNDA (io), 16 VDD (io), 17 GND (io), 26 VDD (io), 28 VDD (io), 39 VDD (io), 47 VDD (io), 48 GND (io), 64 ~{WAKE} (in), 65 ~{HIB} (io), 66 XOSC0 (io), 67 XOSC1 (io), 68 VBAT (io), 69 VDD (io), 70 ~{RESET} (io), 79 VDD (io), 80 GND (io), 87 VDDC (io), 88 OSC0 (io), 89 OSC1 (io), 90 VDD (io), 101 VDD (io), 113 VDD (io), 114 GND (io), 115 VDDC (io), 122 VDD (io)
part C pins: 51 VDD (io), 52 VDD (io), 53 EN0RXIN (io), 54 EN0RXIP (io), 55 GND (io), 56 EN0TXON (io), 57 EN0TXOP (io), 58 GND (io), 59 RBIAS (io)

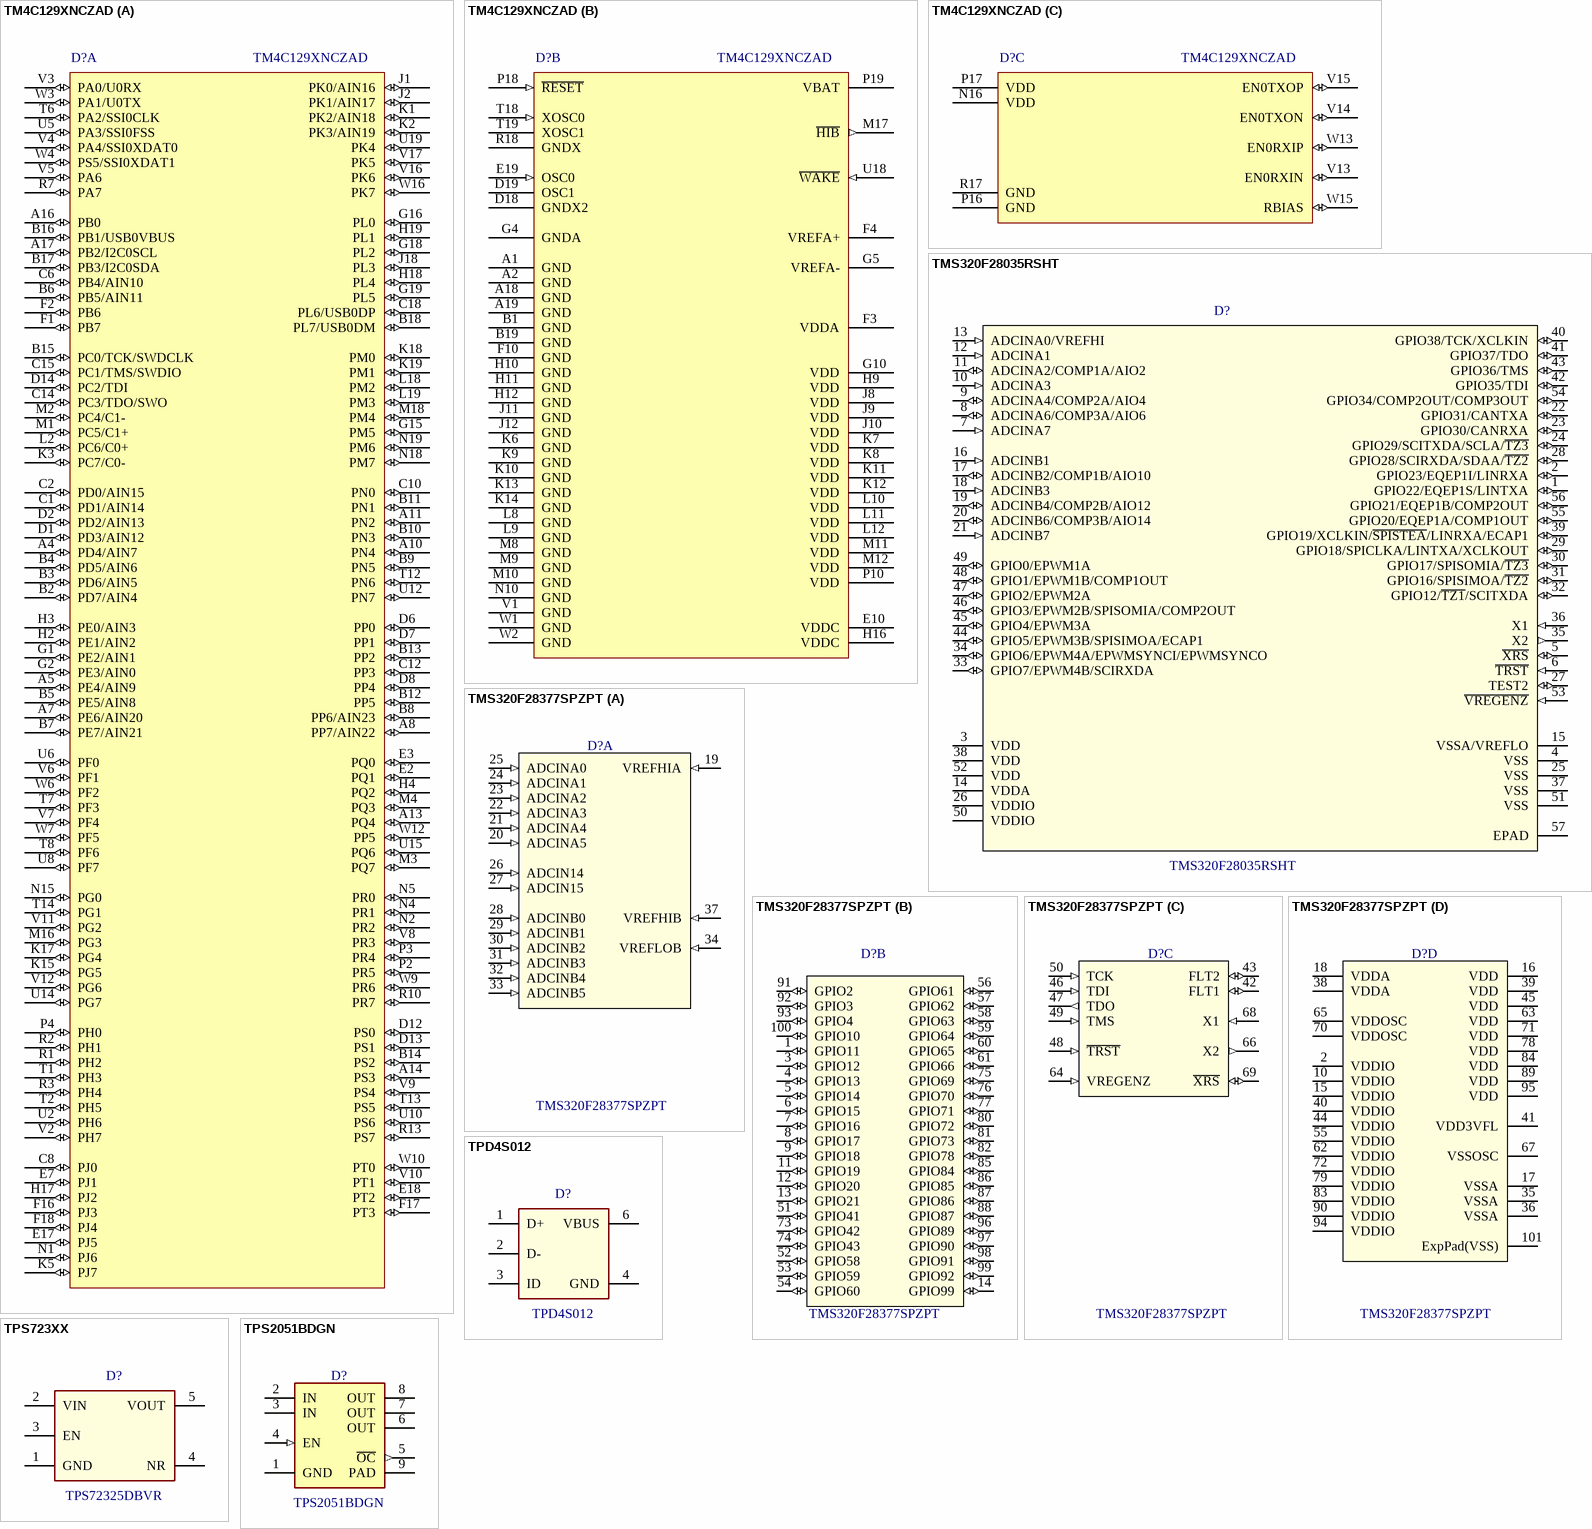
[diagram p8: symbols TM4C129XNCZAD to TPS2051BDGN]

## TM4C129XNCZAD
designator D?  value TM4C129XNCZAD
MCU 32BIT 1MB FLASH 212NFBGA; ValueManufacturer: Texas instruments; PowerVoltage: 2.97V~3.63V; ValueDescription: TM4C129XNCZAD Микроконтроллер 2.97V~3.63V  212 NFBGA (10x10); ValueType: Microcontroller; Price: 20.4; ComponentLink1Description: TI datasheet; ComponentLink1URL: http://www.ti.com/lit/ds/symlink/tm4c129xnczad.pdf; Package: 212 NFBGA (10x10); ValueManufacturerPartNumber: TM4C129XNCZAD; Operating Temperature: -40°C~105°C; CheckDate: SC 21.10.17
footprint BGA212_P5_10X10 (NFBGA, 212-Leads, Body 10x10mmx1,00mm, Pitch 0,50mm)
part A pins: A4 PD4/AIN7 (io), A5 PE4/AIN9 (io), A7 PE6/AIN20 (io), A8 PP7/AIN22 (io), A10 PN4 (io), A11 PN2 (io), A13 PQ4 (io), A14 PS3 (io), A16 PB0 (io), A17 PB2/I2C0SCL (io), B2 PD7/AIN4 (io), B3 PD6/AIN5 (io), B4 PD5/AIN6 (io), B5 PE5/AIN8 (io), B6 PB5/AIN11 (io), B7 PE7/AIN21 (io), B8 PP6/AIN23 (io), B9 PN5 (io), B10 PN3 (io), B11 PN1 (io), B12 PP5 (io), B13 PP2 (io), B14 PS2 (io), B15 PC0/TCK/SWDCLK (io), B16 PB1/USB0VBUS (io), B17 PB3/I2C0SDA (io), B18 PL7/USB0DM (io), C1 PD1/AIN14 (io), C2 PD0/AIN15 (io), C6 PB4/AIN10 (io), C8 PJ0 (io), C10 PN0 (io), C12 PP3 (io), C14 PC3/TDO/SWO (io), C15 PC1/TMS/SWDIO (io), C18 PL6/USB0DP (io), D1 PD3/AIN12 (io), D2 PD2/AIN13 (io), D6 PP0 (io), D7 PP1 (io), D8 PP4 (io), D12 PS0 (io), D13 PS1 (io), D14 PC2/TDI (io), E2 PQ1 (io), E3 PQ0 (io), E7 PJ1 (io), E17 PJ5 (io), E18 PT2 (io), F1 PB7 (io), F2 PB6 (io), F16 PJ3 (io), F17 PT3 (io), F18 PJ4 (io), G1 PE2/AIN1 (io), G2 PE3/AIN0 (io), G15 PM5 (io), G16 PL0 (io), G18 PL2 (io), G19 PL5 (io), H2 PE1/AIN2 (io), H3 PE0/AIN3 (io), H4 PQ2 (io), H17 PJ2 (io), H18 PL4 (io), H19 PL1 (io), J1 PK0/AIN16 (io), J2 PK1/AIN17 (io), J18 PL3 (io), K1 PK2/AIN18 (io), K2 PK3/AIN19 (io), K3 PC7/C0- (io), K5 PJ7 (io), K15 PG5 (io), K17 PG4 (io), K18 PM0 (io), K19 PM1 (io), L2 PC6/C0+ (io), L18 PM2 (io), L19 PM3 (io), M1 PC5/C1+ (io), M2 PC4/C1- (io), M3 PQ7 (io), M4 PQ3 (io), M16 PG3 (io), M18 PM4 (io), N1 PJ6 (io), N2 PR2 (io), N4 PR1 (io), N5 PR0 (io), N15 PG0 (io), N18 PM7 (io), N19 PM6 (io), P2 PR5 (io), P3 PR4 (io), P4 PH0 (io), R1 PH2 (io), R2 PH1 (io), R3 PH4 (io), R7 PA7 (io), R10 PR7 (io), R13 PS7 (io), T1 PH3 (io), T2 PH5 (io), T6 PA2/SSI0CLK (io), T7 PF3 (io), T8 PF6 (io), T12 PN6 (io), T13 PS5 (io), T14 PG1 (io), U2 PH6 (io), U5 PA3/SSI0FSS (io), U6 PF0 (io), U8 PF7 (io), U10 PS6 (io), U12 PN7 (io), U14 PG7 (io), U15 PQ6 (io), U19 PK4 (io), V2 PH7 (io), V3 PA0/U0RX (io), V4 PA4/SSI0XDAT0 (io), V5 PA6 (io), V6 PF1 (io), V7 PF4 (io), V8 PR3 (io), V9 PS4 (io), V10 PT1 (io), V11 PG2 (io), V12 PG6 (io), V16 PK6 (io), V17 PK5 (io), W3 PA1/U0TX (io), W4 PS5/SSI0XDAT1 (io), W6 PF2 (io), W7 PF5 (io), W9 PR6 (io), W10 PT0 (io), W12 PP5 (io), W16 PK7 (io)
part B pins: A1 GND (power), A2 GND (power), A18 GND (power), A19 GND (power), B1 GND (power), B19 GND (power), D18 GNDX2 (power), D19 OSC1, E10 VDDC (power), E19 OSC0 (in), F3 VDDA (power), F4 VREFA+ (power), F10 GND (power), G4 GNDA (power), G5 VREFA- (power), G10 VDD (power), H9 VDD (power), H10 GND (power), H11 GND (power), H12 GND (power), H16 VDDC (power), J8 VDD (power), J9 VDD (power), J10 VDD (power), J11 GND (power), J12 GND (power), K6 GND (power), K7 VDD (power), K8 VDD (power), K9 GND (power), K10 GND (power), K11 VDD (power), K12 VDD (power), K13 GND (power), K14 GND (power), L8 GND (power), L9 GND (power), L10 VDD (power), L11 VDD (power), L12 VDD (power), M8 GND (power), M9 GND (power), M10 GND (power), M11 VDD (power), M12 VDD (power), M17 ~{HIB} (out), N10 GND (power), P10 VDD (power), P18 ~{RESET} (in), P19 VBAT (power), R18 GNDX (power), T18 XOSC0 (in), T19 XOSC1, U18 ~{WAKE} (in), V1 GND (power), W1 GND (power), W2 GND (power)
part C pins: N16 VDD (power), P16 GND (power), P17 VDD (power), R17 GND (power), V13 EN0RXIN (io), V14 EN0TXON (io), V15 EN0TXOP (io), W13 EN0RXIP (io), W15 RBIAS (io)

## TMS320F28035RSHT
designator D?  value TMS320F28035RSHT
IC MCU 32BIT 128KB FLASH 56VQFN; ValueManufacturer: Texas Instrument; PowerVoltage: 1.71 V ~ 1.995 V; ValueDescription: TMS320F28035RSHT Микроконтроллер 1.71 V ~ 1.995 V  56-VQFN (7x7); ValueType: Microcontroller; Price: 11.12; ComponentLink1Description: TI Datasheet; ComponentLink1URL: http://www.ti.com/lit/ds/symlink/tms320f28030.pdf; Package: 56-VQFN (7x7); ValueManufacturerPartNumber: TMS320F28035RSHT; Operating Temperature: -40°C ~ 105°C (TA); CheckDate: SC *
footprint VQFN-56-7X7-0.4-T (QFN, 56-Leads, Body 7x7mm, Pitch 0.4mm, Thermal Pad 5.3x5.3mm)
pins: 1 GPIO22/EQEP1S/LINTXA (io), 2 GPIO23/EQEP1I/LINRXA (io), 3 VDD (power), 4 VSS (power), 5 ~{XRS} (io), 6 ~{TRST} (in), 7 ADCINA7 (in), 8 ADCINA6/COMP3A/AIO6 (io), 9 ADCINA4/COMP2A/AIO4 (io), 10 ADCINA3 (in), 11 ADCINA2/COMP1A/AIO2 (io), 12 ADCINA1 (in), 13 ADCINA0/VREFHI (in), 14 VDDA (power), 15 VSSA/VREFLO (power), 16 ADCINB1 (in), 17 ADCINB2/COMP1B/AIO10 (io), 18 ADCINB3 (in), 19 ADCINB4/COMP2B/AIO12 (io), 20 ADCINB6/COMP3B/AIO14 (io), 21 ADCINB7 (in), 22 GPIO31/CANTXA (io), 23 GPIO30/CANRXA (io), 24 GPIO29/SCITXDA/SCLA/~{TZ3} (io), 25 VSS (power), 26 VDDIO (power), 27 TEST2 (io), 28 GPIO28/SCIRXDA/SDAA/~{TZ2} (io), 29 GPIO18/SPICLKA/LINTXA/XCLKOUT (io), 30 GPIO17/SPISOMIA/~{TZ3} (io), 31 GPIO16/SPISIMOA/~{TZ2} (io), 32 GPIO12/~{TZ1}/SCITXDA (io), 33 GPIO7/EPWM4B/SCIRXDA (io), 34 GPIO6/EPWM4A/EPWMSYNCI/EPWMSYNCO (io), 35 X2 (out), 36 X1 (in), 37 VSS (power), 38 VDD (power), 39 GPIO19/XCLKIN/~{SPISTEA}/LINRXA/ECAP1 (io), 40 GPIO38/TCK/XCLKIN (io), 41 GPIO37/TDO (io), 42 GPIO35/TDI (io), 43 GPIO36/TMS (io), 44 GPIO5/EPWM3B/SPISIMOA/ECAP1 (io), 45 GPIO4/EPWM3A (io), 46 GPIO3/EPWM2B/SPISOMIA/COMP2OUT (io), 47 GPIO2/EPWM2A (io), 48 GPIO1/EPWM1B/COMP1OUT (io), 49 GPIO0/EPWM1A (io), 50 VDDIO (power), 51 VSS (power), 52 VDD (power), 53 ~{VREGENZ} (in), 54 GPIO34/COMP2OUT/COMP3OUT (io), 55 GPIO20/EQEP1A/COMP1OUT (io), 56 GPIO21/EQEP1B/COMP2OUT (io), 57 EPAD